# Altium schematic symbol library NXP LPC2000.SchLib: 82 symbols (part 1 of 6)
Pins are listed as number, name and electrical type; pins without a type are passive.

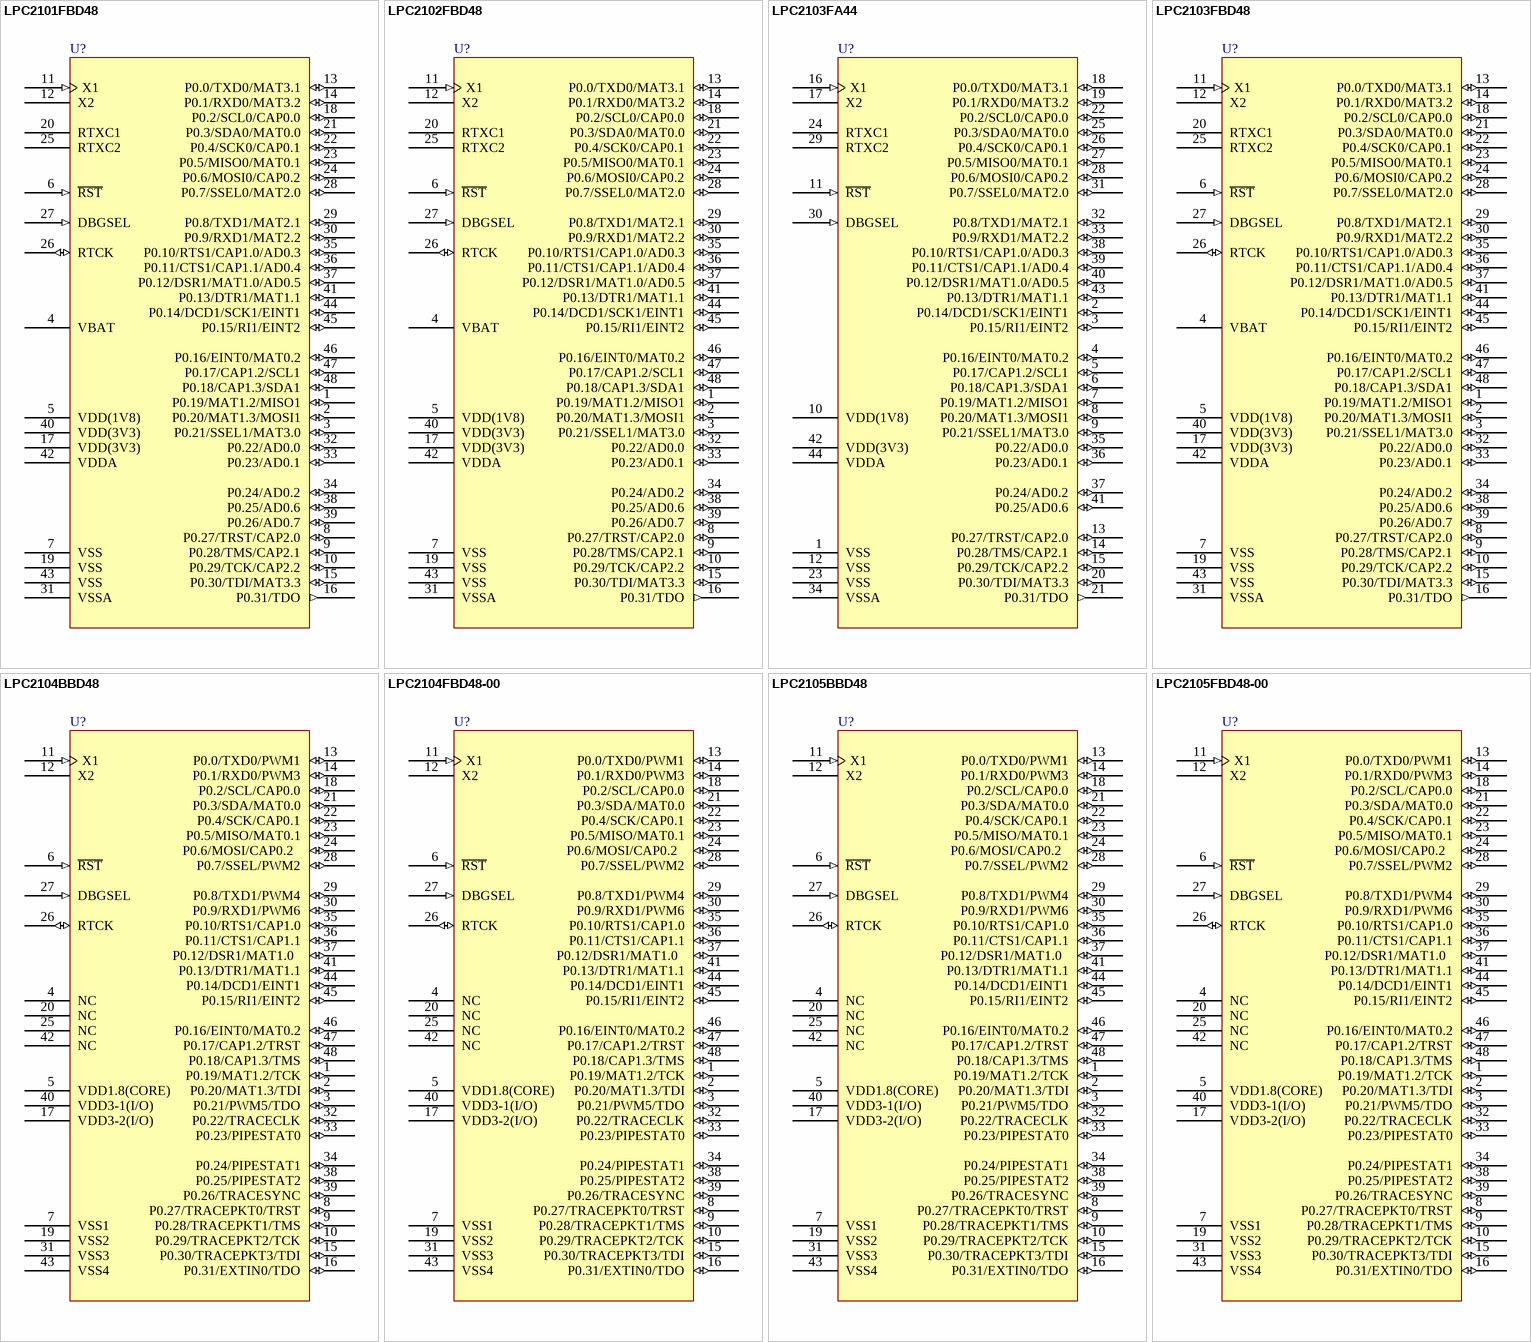
[diagram p0: symbols LPC2101FBD48 to LPC2105FBD48-00]

## LPC2101FBD48
designator U?
ARM7 16/32-Bit Microcontroller, 8KB Flash, 2KB RAM, 48-Lead LQFP; Code_IEC: 136E05; Published: 31-Jul-2006; DatasheetVersion: rev.01, Jan-2006; PackageVersion: Feb-2003; PackageReference: SOT313-2; Publisher: Altium Limited; PackageDescription: 48-Pin Plastic Low Profile Quad Flat Pack; Code_JEDEC: MS-026; ComponentLink1Description: Manufacturer Link; ComponentLink1URL: http://www.nxp.com/; ComponentLink2Description: Datasheet; ComponentLink2URL: http://www.standardics.nxp.com/products/lpc2000/datasheet/lpc2101.lpc2102.lpc2103.pdf
footprint SOT313-2_N (Thin QFP, 48-Leads, Body 7x7mm, Pitch 0.5mm, IPC Medium Density)
footprint SOT313-2_L (Thin QFP, 48-Leads, Body 7x7mm, Pitch 0.5mm, IPC High Density)
footprint SOT313-2_M (Thin QFP, 48-Leads, Body 7x7mm, Pitch 0.5mm, IPC Low Density)
3D model LPC2101-QFP48 (48-Pin Plastic Low Profile Quad Flat Pack)
pins: 1 P0.19/MAT1.2/MISO1 (io), 2 P0.20/MAT1.3/MOSI1 (io), 3 P0.21/SSEL1/MAT3.0 (io), 4 VBAT (power), 5 VDD(1V8) (power), 6 ~{RST} (in), 7 VSS (power), 8 P0.27/TRST/CAP2.0 (io), 9 P0.28/TMS/CAP2.1 (io), 10 P0.29/TCK/CAP2.2 (io), 11 X1 (in), 12 X2, 13 P0.0/TXD0/MAT3.1 (io), 14 P0.1/RXD0/MAT3.2 (io), 15 P0.30/TDI/MAT3.3 (io), 16 P0.31/TDO (out), 17 VDD(3V3) (power), 18 P0.2/SCL0/CAP0.0 (io), 19 VSS (power), 20 RTXC1, 21 P0.3/SDA0/MAT0.0 (io), 22 P0.4/SCK0/CAP0.1 (io), 23 P0.5/MISO0/MAT0.1 (io), 24 P0.6/MOSI0/CAP0.2 (io), 25 RTXC2, 26 RTCK (io), 27 DBGSEL (in), 28 P0.7/SSEL0/MAT2.0 (io), 29 P0.8/TXD1/MAT2.1 (io), 30 P0.9/RXD1/MAT2.2 (io), 31 VSSA (power), 32 P0.22/AD0.0 (io), 33 P0.23/AD0.1 (io), 34 P0.24/AD0.2 (io), 35 P0.10/RTS1/CAP1.0/AD0.3 (io), 36 P0.11/CTS1/CAP1.1/AD0.4 (io), 37 P0.12/DSR1/MAT1.0/AD0.5 (io), 38 P0.25/AD0.6 (io), 39 P0.26/AD0.7 (io), 40 VDD(3V3) (power), 41 P0.13/DTR1/MAT1.1 (io), 42 VDDA (power), 43 VSS (power), 44 P0.14/DCD1/SCK1/EINT1 (io), 45 P0.15/RI1/EINT2 (io), 46 P0.16/EINT0/MAT0.2 (io), 47 P0.17/CAP1.2/SCL1 (io), 48 P0.18/CAP1.3/SDA1 (io)

## LPC2102FBD48
designator U?
ARM7 16/32-Bit Microcontroller, 16KB Flash, 4KB RAM, 48-Lead LQFP; Code_IEC: 136E05; Published: 31-Jul-2006; DatasheetVersion: rev.01, Jan-2006; PackageVersion: Feb-2003; PackageReference: SOT313-2; Publisher: Altium Limited; PackageDescription: 48-Pin Plastic Low Profile Quad Flat Pack; Code_JEDEC: MS-026; ComponentLink1Description: Manufacturer Link; ComponentLink1URL: http://www.nxp.com/; ComponentLink2Description: Datasheet; ComponentLink2URL: http://www.standardics.nxp.com/products/lpc2000/datasheet/lpc2101.lpc2102.lpc2103.pdf
footprint SOT313-2_N (Thin QFP, 48-Leads, Body 7x7mm, Pitch 0.5mm, IPC Medium Density)
footprint SOT313-2_L (Thin QFP, 48-Leads, Body 7x7mm, Pitch 0.5mm, IPC High Density)
footprint SOT313-2_M (Thin QFP, 48-Leads, Body 7x7mm, Pitch 0.5mm, IPC Low Density)
3D model LPC2102-QFP48 (48-Pin Plastic Low Profile Quad Flat Pack)
pins: 1 P0.19/MAT1.2/MISO1 (io), 2 P0.20/MAT1.3/MOSI1 (io), 3 P0.21/SSEL1/MAT3.0 (io), 4 VBAT (power), 5 VDD(1V8) (power), 6 ~{RST} (in), 7 VSS (power), 8 P0.27/TRST/CAP2.0 (io), 9 P0.28/TMS/CAP2.1 (io), 10 P0.29/TCK/CAP2.2 (io), 11 X1 (in), 12 X2, 13 P0.0/TXD0/MAT3.1 (io), 14 P0.1/RXD0/MAT3.2 (io), 15 P0.30/TDI/MAT3.3 (io), 16 P0.31/TDO (out), 17 VDD(3V3) (power), 18 P0.2/SCL0/CAP0.0 (io), 19 VSS (power), 20 RTXC1, 21 P0.3/SDA0/MAT0.0 (io), 22 P0.4/SCK0/CAP0.1 (io), 23 P0.5/MISO0/MAT0.1 (io), 24 P0.6/MOSI0/CAP0.2 (io), 25 RTXC2, 26 RTCK (io), 27 DBGSEL (in), 28 P0.7/SSEL0/MAT2.0 (io), 29 P0.8/TXD1/MAT2.1 (io), 30 P0.9/RXD1/MAT2.2 (io), 31 VSSA (power), 32 P0.22/AD0.0 (io), 33 P0.23/AD0.1 (io), 34 P0.24/AD0.2 (io), 35 P0.10/RTS1/CAP1.0/AD0.3 (io), 36 P0.11/CTS1/CAP1.1/AD0.4 (io), 37 P0.12/DSR1/MAT1.0/AD0.5 (io), 38 P0.25/AD0.6 (io), 39 P0.26/AD0.7 (io), 40 VDD(3V3) (power), 41 P0.13/DTR1/MAT1.1 (io), 42 VDDA (power), 43 VSS (power), 44 P0.14/DCD1/SCK1/EINT1 (io), 45 P0.15/RI1/EINT2 (io), 46 P0.16/EINT0/MAT0.2 (io), 47 P0.17/CAP1.2/SCL1 (io), 48 P0.18/CAP1.3/SDA1 (io)

## LPC2103FA44
designator U?
ARM7 16/32-Bit Microcontroller, 32KB Flash, 8KB RAM, 44-Lead PLCC; Code_IEC: 112E10; Published: 31-Jul-2006; DatasheetVersion: rev.01, Jan-2006; PackageVersion: Nov-2001; PackageReference: SOT187-2; Publisher: Altium Limited; PackageDescription: 44-Pin Leaded Chip Carrier 1.27 mm Pitch; Code_JEDEC: MS-018; Code_IPC: PLCC-44; ComponentLink1Description: Manufacturer Link; ComponentLink1URL: http://www.nxp.com/; ComponentLink2Description: Datasheet; ComponentLink2URL: http://www.standardics.nxp.com/products/lpc2000/datasheet/lpc2101.lpc2102.lpc2103.pdf
footprint SOT187-2_N (Leaded Chip Carrier, 44-Leads, Body 16.6x16.6mm, Pitch 1.27mm, IPC Medium Density)
footprint SOT187-2_L (Leaded Chip Carrier, 44-Leads, Body 16.6x16.6mm, Pitch 1.27mm, IPC High Density)
footprint SOT187-2_M (Leaded Chip Carrier, 44-Leads, Body 16.6x16.6mm, Pitch 1.27mm, IPC Low Density)
3D model LPC2103-PLCC44 (44-Pin Leaded Chip Carrier 1.27 mm Pitch)
pins: 1 VSS (power), 2 P0.14/DCD1/SCK1/EINT1 (io), 3 P0.15/RI1/EINT2 (io), 4 P0.16/EINT0/MAT0.2 (io), 5 P0.17/CAP1.2/SCL1 (io), 6 P0.18/CAP1.3/SDA1 (io), 7 P0.19/MAT1.2/MISO1 (io), 8 P0.20/MAT1.3/MOSI1 (io), 9 P0.21/SSEL1/MAT3.0 (io), 10 VDD(1V8) (power), 11 ~{RST} (in), 12 VSS (power), 13 P0.27/TRST/CAP2.0 (io), 14 P0.28/TMS/CAP2.1 (io), 15 P0.29/TCK/CAP2.2 (io), 16 X1 (in), 17 X2, 18 P0.0/TXD0/MAT3.1 (io), 19 P0.1/RXD0/MAT3.2 (io), 20 P0.30/TDI/MAT3.3 (io), 21 P0.31/TDO (out), 22 P0.2/SCL0/CAP0.0 (io), 23 VSS (power), 24 RTXC1, 25 P0.3/SDA0/MAT0.0 (io), 26 P0.4/SCK0/CAP0.1 (io), 27 P0.5/MISO0/MAT0.1 (io), 28 P0.6/MOSI0/CAP0.2 (io), 29 RTXC2, 30 DBGSEL (in), 31 P0.7/SSEL0/MAT2.0 (io), 32 P0.8/TXD1/MAT2.1 (io), 33 P0.9/RXD1/MAT2.2 (io), 34 VSSA (power), 35 P0.22/AD0.0 (io), 36 P0.23/AD0.1 (io), 37 P0.24/AD0.2 (io), 38 P0.10/RTS1/CAP1.0/AD0.3 (io), 39 P0.11/CTS1/CAP1.1/AD0.4 (io), 40 P0.12/DSR1/MAT1.0/AD0.5 (io), 41 P0.25/AD0.6 (io), 42 VDD(3V3) (power), 43 P0.13/DTR1/MAT1.1 (io), 44 VDDA (power)

## LPC2103FBD48
designator U?
ARM7 16/32-Bit Microcontroller, 32KB Flash, 8KB RAM, 48-Lead LQFP; Code_IEC: 136E05; Published: 31-Jul-2006; DatasheetVersion: rev.01, Jan-2006; PackageVersion: Feb-2003; PackageReference: SOT313-2; Publisher: Altium Limited; PackageDescription: 48-Pin Plastic Low Profile Quad Flat Pack; Code_JEDEC: MS-026; ComponentLink1Description: Manufacturer Link; ComponentLink1URL: http://www.nxp.com/; ComponentLink2Description: Datasheet; ComponentLink2URL: http://www.standardics.nxp.com/products/lpc2000/datasheet/lpc2101.lpc2102.lpc2103.pdf
footprint SOT313-2_N (Thin QFP, 48-Leads, Body 7x7mm, Pitch 0.5mm, IPC Medium Density)
footprint SOT313-2_L (Thin QFP, 48-Leads, Body 7x7mm, Pitch 0.5mm, IPC High Density)
footprint SOT313-2_M (Thin QFP, 48-Leads, Body 7x7mm, Pitch 0.5mm, IPC Low Density)
3D model LPC2103-QFP48 (48-Pin Plastic Low Profile Quad Flat Pack)
pins: 1 P0.19/MAT1.2/MISO1 (io), 2 P0.20/MAT1.3/MOSI1 (io), 3 P0.21/SSEL1/MAT3.0 (io), 4 VBAT (power), 5 VDD(1V8) (power), 6 ~{RST} (in), 7 VSS (power), 8 P0.27/TRST/CAP2.0 (io), 9 P0.28/TMS/CAP2.1 (io), 10 P0.29/TCK/CAP2.2 (io), 11 X1 (in), 12 X2, 13 P0.0/TXD0/MAT3.1 (io), 14 P0.1/RXD0/MAT3.2 (io), 15 P0.30/TDI/MAT3.3 (io), 16 P0.31/TDO (out), 17 VDD(3V3) (power), 18 P0.2/SCL0/CAP0.0 (io), 19 VSS (power), 20 RTXC1, 21 P0.3/SDA0/MAT0.0 (io), 22 P0.4/SCK0/CAP0.1 (io), 23 P0.5/MISO0/MAT0.1 (io), 24 P0.6/MOSI0/CAP0.2 (io), 25 RTXC2, 26 RTCK (io), 27 DBGSEL (in), 28 P0.7/SSEL0/MAT2.0 (io), 29 P0.8/TXD1/MAT2.1 (io), 30 P0.9/RXD1/MAT2.2 (io), 31 VSSA (power), 32 P0.22/AD0.0 (io), 33 P0.23/AD0.1 (io), 34 P0.24/AD0.2 (io), 35 P0.10/RTS1/CAP1.0/AD0.3 (io), 36 P0.11/CTS1/CAP1.1/AD0.4 (io), 37 P0.12/DSR1/MAT1.0/AD0.5 (io), 38 P0.25/AD0.6 (io), 39 P0.26/AD0.7 (io), 40 VDD(3V3) (power), 41 P0.13/DTR1/MAT1.1 (io), 42 VDDA (power), 43 VSS (power), 44 P0.14/DCD1/SCK1/EINT1 (io), 45 P0.15/RI1/EINT2 (io), 46 P0.16/EINT0/MAT0.2 (io), 47 P0.17/CAP1.2/SCL1 (io), 48 P0.18/CAP1.3/SDA1 (io)

## LPC2104BBD48
designator U?
ARM7 16/32-Bit Microcontroller, 128KB Flash, 16KB RAM, 48-Lead LQFP; Code_IEC: 136E05; Published: 31-Jul-2006; DatasheetVersion: rev.06, Jul-2006; PackageVersion: Feb-2003; PackageReference: SOT313-2; Publisher: Altium Limited; PackageDescription: 48-Pin Plastic Low Profile Quad Flat Pack; Code_JEDEC: MS-026; ComponentLink1Description: Manufacturer Link; ComponentLink1URL: http://www.nxp.com/; ComponentLink2Description: Datasheet; ComponentLink2URL: http://www.standardics.nxp.com/products/lpc2000/datasheet/lpc2104.lpc2105.lpc2106.pdf
footprint SOT313-2_N (Thin QFP, 48-Leads, Body 7x7mm, Pitch 0.5mm, IPC Medium Density)
footprint SOT313-2_L (Thin QFP, 48-Leads, Body 7x7mm, Pitch 0.5mm, IPC High Density)
footprint SOT313-2_M (Thin QFP, 48-Leads, Body 7x7mm, Pitch 0.5mm, IPC Low Density)
3D model LPC2104-QFP48 (48-Pin Plastic Low Profile Quad Flat Pack)
pins: 1 P0.19/MAT1.2/TCK (io), 2 P0.20/MAT1.3/TDI (io), 3 P0.21/PWM5/TDO (io), 4 NC, 5 VDD1.8(CORE) (power), 6 ~{RST} (in), 7 VSS1 (power), 8 P0.27/TRACEPKT0/TRST (io), 9 P0.28/TRACEPKT1/TMS (io), 10 P0.29/TRACEPKT2/TCK (io), 11 X1 (in), 12 X2, 13 P0.0/TXD0/PWM1 (io), 14 P0.1/RXD0/PWM3 (io), 15 P0.30/TRACEPKT3/TDI (io), 16 P0.31/EXTIN0/TDO (io), 17 VDD3-2(I/O) (power), 18 P0.2/SCL/CAP0.0 (io), 19 VSS2 (power), 20 NC, 21 P0.3/SDA/MAT0.0 (io), 22 P0.4/SCK/CAP0.1 (io), 23 P0.5/MISO/MAT0.1 (io), 24 P0.6/MOSI/CAP0.2   (io), 25 NC, 26 RTCK (io), 27 DBGSEL (in), 28 P0.7/SSEL/PWM2 (io), 29 P0.8/TXD1/PWM4 (io), 30 P0.9/RXD1/PWM6 (io), 31 VSS3 (power), 32 P0.22/TRACECLK (io), 33 P0.23/PIPESTAT0 (io), 34 P0.24/PIPESTAT1 (io), 35 P0.10/RTS1/CAP1.0 (io), 36 P0.11/CTS1/CAP1.1 (io), 37 P0.12/DSR1/MAT1.0   (io), 38 P0.25/PIPESTAT2 (io), 39 P0.26/TRACESYNC (io), 40 VDD3-1(I/O) (power), 41 P0.13/DTR1/MAT1.1 (io), 42 NC, 43 VSS4 (power), 44 P0.14/DCD1/EINT1 (io), 45 P0.15/RI1/EINT2 (io), 46 P0.16/EINT0/MAT0.2 (io), 47 P0.17/CAP1.2/TRST (io), 48 P0.18/CAP1.3/TMS (io)

## LPC2104FBD48-00
designator U?
ARM7 16/32-Bit Microcontroller, 128KB Flash, 16KB RAM, 48-Lead LQFP; Code_IEC: 136E05; Published: 17-Aug-2007; DatasheetVersion: rev.06, Jul-2006; PackageVersion: Feb-2003; PackageReference: SOT313-2; Publisher: Altium Limited; PackageDescription: 48-Pin Plastic Low Profile Quad Flat Pack; Code_JEDEC: MS-026; ComponentLink1Description: Manufacturer Link; ComponentLink1URL: http://www.nxp.com/; ComponentLink2Description: Datasheet; ComponentLink2URL: http://www.standardics.nxp.com/products/lpc2000/datasheet/lpc2104.lpc2105.lpc2106.pdf
footprint SOT313-2_N (Thin QFP, 48-Leads, Body 7x7mm, Pitch 0.5mm, IPC Medium Density)
footprint SOT313-2_L (Thin QFP, 48-Leads, Body 7x7mm, Pitch 0.5mm, IPC High Density)
footprint SOT313-2_M (Thin QFP, 48-Leads, Body 7x7mm, Pitch 0.5mm, IPC Low Density)
3D model LPC2104-QFP48 (48-Pin Plastic Low Profile Quad Flat Pack)
pins: 1 P0.19/MAT1.2/TCK (io), 2 P0.20/MAT1.3/TDI (io), 3 P0.21/PWM5/TDO (io), 4 NC, 5 VDD1.8(CORE) (power), 6 ~{RST} (in), 7 VSS1 (power), 8 P0.27/TRACEPKT0/TRST (io), 9 P0.28/TRACEPKT1/TMS (io), 10 P0.29/TRACEPKT2/TCK (io), 11 X1 (in), 12 X2, 13 P0.0/TXD0/PWM1 (io), 14 P0.1/RXD0/PWM3 (io), 15 P0.30/TRACEPKT3/TDI (io), 16 P0.31/EXTIN0/TDO (io), 17 VDD3-2(I/O) (power), 18 P0.2/SCL/CAP0.0 (io), 19 VSS2 (power), 20 NC, 21 P0.3/SDA/MAT0.0 (io), 22 P0.4/SCK/CAP0.1 (io), 23 P0.5/MISO/MAT0.1 (io), 24 P0.6/MOSI/CAP0.2   (io), 25 NC, 26 RTCK (io), 27 DBGSEL (in), 28 P0.7/SSEL/PWM2 (io), 29 P0.8/TXD1/PWM4 (io), 30 P0.9/RXD1/PWM6 (io), 31 VSS3 (power), 32 P0.22/TRACECLK (io), 33 P0.23/PIPESTAT0 (io), 34 P0.24/PIPESTAT1 (io), 35 P0.10/RTS1/CAP1.0 (io), 36 P0.11/CTS1/CAP1.1 (io), 37 P0.12/DSR1/MAT1.0   (io), 38 P0.25/PIPESTAT2 (io), 39 P0.26/TRACESYNC (io), 40 VDD3-1(I/O) (power), 41 P0.13/DTR1/MAT1.1 (io), 42 NC, 43 VSS4 (power), 44 P0.14/DCD1/EINT1 (io), 45 P0.15/RI1/EINT2 (io), 46 P0.16/EINT0/MAT0.2 (io), 47 P0.17/CAP1.2/TRST (io), 48 P0.18/CAP1.3/TMS (io)

## LPC2105BBD48
designator U?
ARM7 16/32-Bit Microcontroller, 128KB Flash, 32KB RAM, 48-Lead LQFP; Code_IEC: 136E05; Published: 31-Jul-2006; DatasheetVersion: rev.06, Jul-2006; PackageVersion: Feb-2003; PackageReference: SOT313-2; Publisher: Altium Limited; PackageDescription: 48-Pin Plastic Low Profile Quad Flat Pack; Code_JEDEC: MS-026; ComponentLink1Description: Manufacturer Link; ComponentLink1URL: http://www.nxp.com/; ComponentLink2Description: Datasheet; ComponentLink2URL: http://www.standardics.nxp.com/products/lpc2000/datasheet/lpc2104.lpc2105.lpc2106.pdf
footprint SOT313-2_N (Thin QFP, 48-Leads, Body 7x7mm, Pitch 0.5mm, IPC Medium Density)
footprint SOT313-2_L (Thin QFP, 48-Leads, Body 7x7mm, Pitch 0.5mm, IPC High Density)
footprint SOT313-2_M (Thin QFP, 48-Leads, Body 7x7mm, Pitch 0.5mm, IPC Low Density)
3D model LPC2105-QFP48 (48-Pin Plastic Low Profile Quad Flat Pack)
pins: 1 P0.19/MAT1.2/TCK (io), 2 P0.20/MAT1.3/TDI (io), 3 P0.21/PWM5/TDO (io), 4 NC, 5 VDD1.8(CORE) (power), 6 ~{RST} (in), 7 VSS1 (power), 8 P0.27/TRACEPKT0/TRST (io), 9 P0.28/TRACEPKT1/TMS (io), 10 P0.29/TRACEPKT2/TCK (io), 11 X1 (in), 12 X2, 13 P0.0/TXD0/PWM1 (io), 14 P0.1/RXD0/PWM3 (io), 15 P0.30/TRACEPKT3/TDI (io), 16 P0.31/EXTIN0/TDO (io), 17 VDD3-2(I/O) (power), 18 P0.2/SCL/CAP0.0 (io), 19 VSS2 (power), 20 NC, 21 P0.3/SDA/MAT0.0 (io), 22 P0.4/SCK/CAP0.1 (io), 23 P0.5/MISO/MAT0.1 (io), 24 P0.6/MOSI/CAP0.2   (io), 25 NC, 26 RTCK (io), 27 DBGSEL (in), 28 P0.7/SSEL/PWM2 (io), 29 P0.8/TXD1/PWM4 (io), 30 P0.9/RXD1/PWM6 (io), 31 VSS3 (power), 32 P0.22/TRACECLK (io), 33 P0.23/PIPESTAT0 (io), 34 P0.24/PIPESTAT1 (io), 35 P0.10/RTS1/CAP1.0 (io), 36 P0.11/CTS1/CAP1.1 (io), 37 P0.12/DSR1/MAT1.0   (io), 38 P0.25/PIPESTAT2 (io), 39 P0.26/TRACESYNC (io), 40 VDD3-1(I/O) (power), 41 P0.13/DTR1/MAT1.1 (io), 42 NC, 43 VSS4 (power), 44 P0.14/DCD1/EINT1 (io), 45 P0.15/RI1/EINT2 (io), 46 P0.16/EINT0/MAT0.2 (io), 47 P0.17/CAP1.2/TRST (io), 48 P0.18/CAP1.3/TMS (io)

## LPC2105FBD48-00
designator U?
ARM7 16/32-Bit Microcontroller, 128KB Flash, 32KB RAM, 48-Lead LQFP; Code_IEC: 136E05; Published: 17-Aug-2007; DatasheetVersion: rev.06, Jul-2006; PackageVersion: Feb-2003; PackageReference: SOT313-2; Publisher: Altium Limited; PackageDescription: 48-Pin Plastic Low Profile Quad Flat Pack; Code_JEDEC: MS-026; ComponentLink1Description: Manufacturer Link; ComponentLink1URL: http://www.nxp.com/; ComponentLink2Description: Datasheet; ComponentLink2URL: http://www.standardics.nxp.com/products/lpc2000/datasheet/lpc2104.lpc2105.lpc2106.pdf
footprint SOT313-2_N (Thin QFP, 48-Leads, Body 7x7mm, Pitch 0.5mm, IPC Medium Density)
footprint SOT313-2_L (Thin QFP, 48-Leads, Body 7x7mm, Pitch 0.5mm, IPC High Density)
footprint SOT313-2_M (Thin QFP, 48-Leads, Body 7x7mm, Pitch 0.5mm, IPC Low Density)
3D model LPC2105-QFP48 (48-Pin Plastic Low Profile Quad Flat Pack)
pins: 1 P0.19/MAT1.2/TCK (io), 2 P0.20/MAT1.3/TDI (io), 3 P0.21/PWM5/TDO (io), 4 NC, 5 VDD1.8(CORE) (power), 6 ~{RST} (in), 7 VSS1 (power), 8 P0.27/TRACEPKT0/TRST (io), 9 P0.28/TRACEPKT1/TMS (io), 10 P0.29/TRACEPKT2/TCK (io), 11 X1 (in), 12 X2, 13 P0.0/TXD0/PWM1 (io), 14 P0.1/RXD0/PWM3 (io), 15 P0.30/TRACEPKT3/TDI (io), 16 P0.31/EXTIN0/TDO (io), 17 VDD3-2(I/O) (power), 18 P0.2/SCL/CAP0.0 (io), 19 VSS2 (power), 20 NC, 21 P0.3/SDA/MAT0.0 (io), 22 P0.4/SCK/CAP0.1 (io), 23 P0.5/MISO/MAT0.1 (io), 24 P0.6/MOSI/CAP0.2   (io), 25 NC, 26 RTCK (io), 27 DBGSEL (in), 28 P0.7/SSEL/PWM2 (io), 29 P0.8/TXD1/PWM4 (io), 30 P0.9/RXD1/PWM6 (io), 31 VSS3 (power), 32 P0.22/TRACECLK (io), 33 P0.23/PIPESTAT0 (io), 34 P0.24/PIPESTAT1 (io), 35 P0.10/RTS1/CAP1.0 (io), 36 P0.11/CTS1/CAP1.1 (io), 37 P0.12/DSR1/MAT1.0   (io), 38 P0.25/PIPESTAT2 (io), 39 P0.26/TRACESYNC (io), 40 VDD3-1(I/O) (power), 41 P0.13/DTR1/MAT1.1 (io), 42 NC, 43 VSS4 (power), 44 P0.14/DCD1/EINT1 (io), 45 P0.15/RI1/EINT2 (io), 46 P0.16/EINT0/MAT0.2 (io), 47 P0.17/CAP1.2/TRST (io), 48 P0.18/CAP1.3/TMS (io)

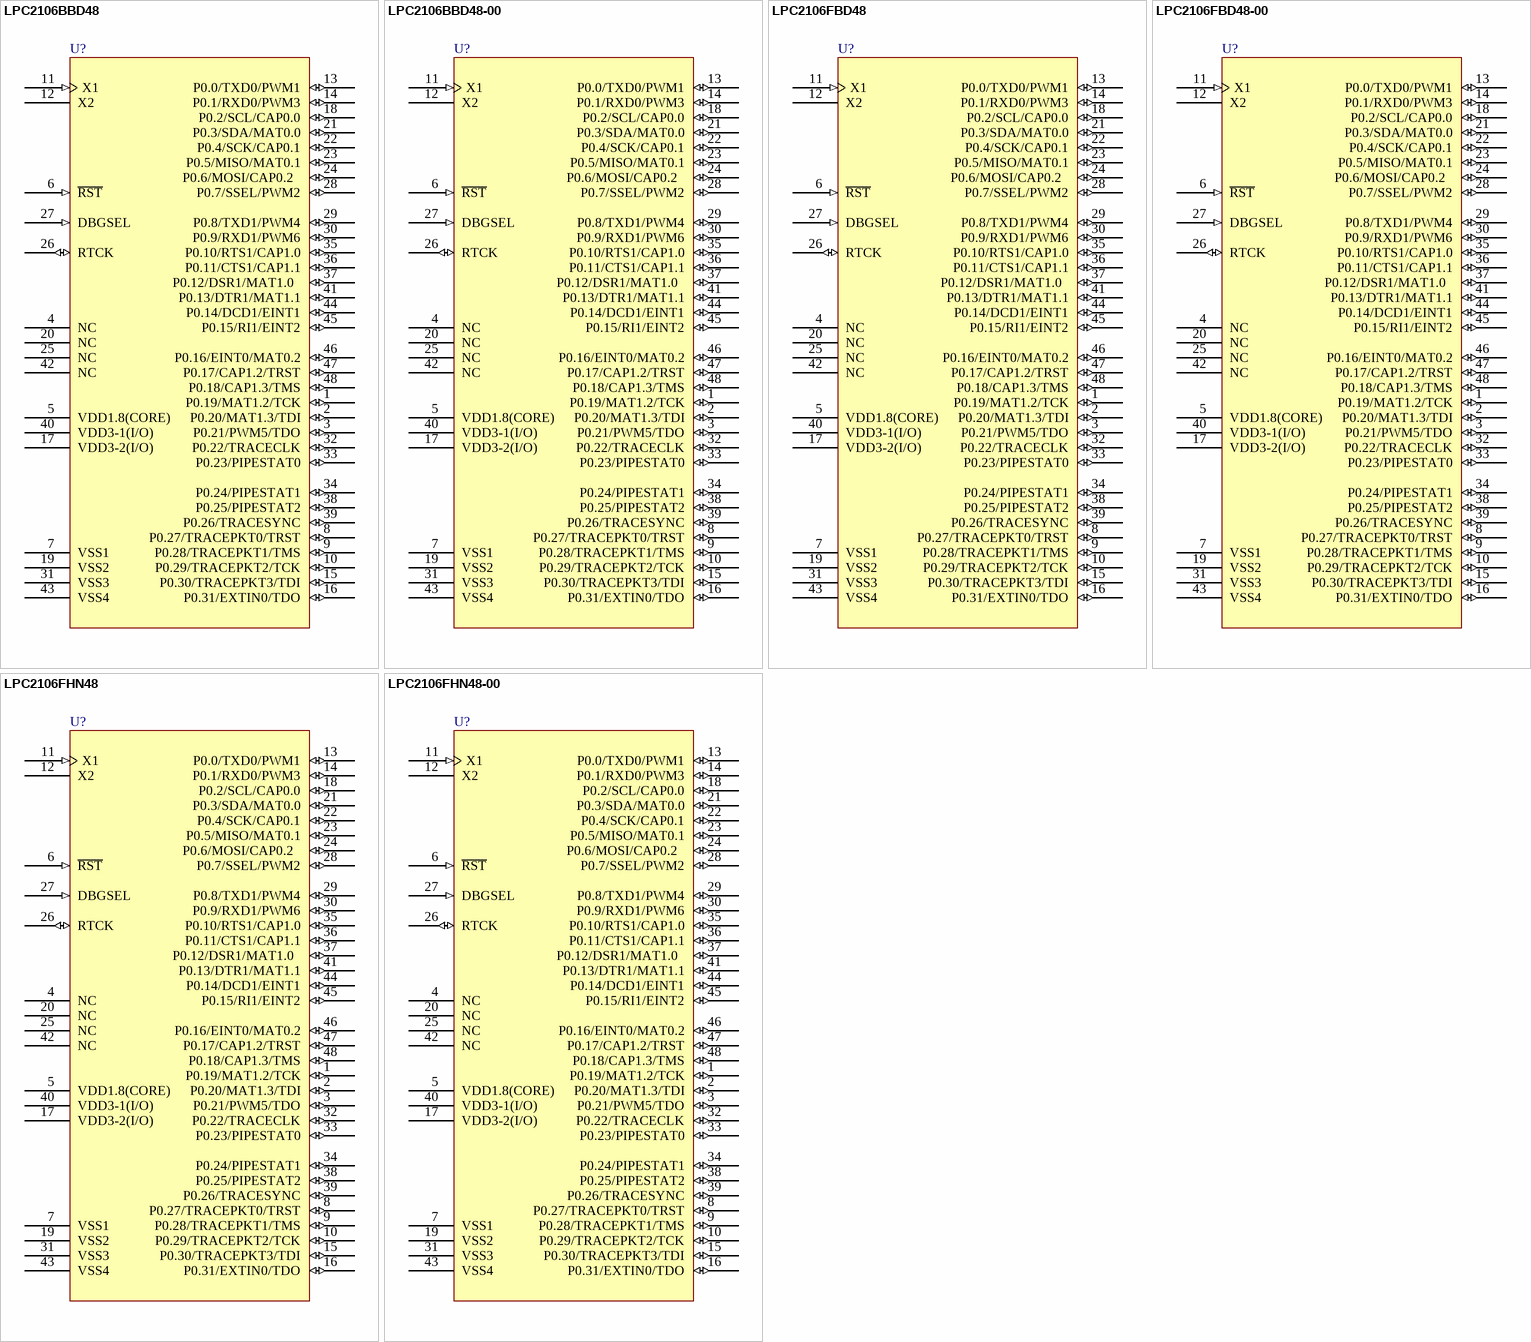
[diagram p1: symbols LPC2106BBD48 to LPC2106FHN48-00]

## LPC2106BBD48
designator U?
ARM7 16/32-Bit Microcontroller, 128KB Flash, 64KB RAM, 48-Lead LQFP; Code_IEC: 136E05; Published: 17-Aug-2007; DatasheetVersion: rev.06, Jul-2006; PackageVersion: Feb-2003; PackageReference: SOT313-2; Publisher: Altium Limited; PackageDescription: 48-Pin Plastic Low Profile Quad Flat Pack; Code_JEDEC: MS-026; ComponentLink1Description: Manufacturer Link; ComponentLink1URL: http://www.nxp.com/; ComponentLink2Description: Datasheet; ComponentLink2URL: http://www.standardics.nxp.com/products/lpc2000/datasheet/lpc2104.lpc2105.lpc2106.pdf
footprint SOT313-2_N (Thin QFP, 48-Leads, Body 7x7mm, Pitch 0.5mm, IPC Medium Density)
footprint SOT313-2_L (Thin QFP, 48-Leads, Body 7x7mm, Pitch 0.5mm, IPC High Density)
footprint SOT313-2_M (Thin QFP, 48-Leads, Body 7x7mm, Pitch 0.5mm, IPC Low Density)
3D model LPC2106-QFP48 (48-Pin Plastic Low Profile Quad Flat Pack)
pins: 1 P0.19/MAT1.2/TCK (io), 2 P0.20/MAT1.3/TDI (io), 3 P0.21/PWM5/TDO (io), 4 NC, 5 VDD1.8(CORE) (power), 6 ~{RST} (in), 7 VSS1 (power), 8 P0.27/TRACEPKT0/TRST (io), 9 P0.28/TRACEPKT1/TMS (io), 10 P0.29/TRACEPKT2/TCK (io), 11 X1 (in), 12 X2, 13 P0.0/TXD0/PWM1 (io), 14 P0.1/RXD0/PWM3 (io), 15 P0.30/TRACEPKT3/TDI (io), 16 P0.31/EXTIN0/TDO (io), 17 VDD3-2(I/O) (power), 18 P0.2/SCL/CAP0.0 (io), 19 VSS2 (power), 20 NC, 21 P0.3/SDA/MAT0.0 (io), 22 P0.4/SCK/CAP0.1 (io), 23 P0.5/MISO/MAT0.1 (io), 24 P0.6/MOSI/CAP0.2   (io), 25 NC, 26 RTCK (io), 27 DBGSEL (in), 28 P0.7/SSEL/PWM2 (io), 29 P0.8/TXD1/PWM4 (io), 30 P0.9/RXD1/PWM6 (io), 31 VSS3 (power), 32 P0.22/TRACECLK (io), 33 P0.23/PIPESTAT0 (io), 34 P0.24/PIPESTAT1 (io), 35 P0.10/RTS1/CAP1.0 (io), 36 P0.11/CTS1/CAP1.1 (io), 37 P0.12/DSR1/MAT1.0   (io), 38 P0.25/PIPESTAT2 (io), 39 P0.26/TRACESYNC (io), 40 VDD3-1(I/O) (power), 41 P0.13/DTR1/MAT1.1 (io), 42 NC, 43 VSS4 (power), 44 P0.14/DCD1/EINT1 (io), 45 P0.15/RI1/EINT2 (io), 46 P0.16/EINT0/MAT0.2 (io), 47 P0.17/CAP1.2/TRST (io), 48 P0.18/CAP1.3/TMS (io)

## LPC2106BBD48-00
designator U?
ARM7 16/32-Bit Microcontroller, 128KB Flash, 64KB RAM, 48-Lead LQFP; Code_IEC: 136E05; Published: 17-Aug-2007; DatasheetVersion: rev.06, Jul-2006; PackageVersion: Feb-2003; PackageReference: SOT313-2; Publisher: Altium Limited; PackageDescription: 48-Pin Plastic Low Profile Quad Flat Pack; Code_JEDEC: MS-026; ComponentLink1Description: Manufacturer Link; ComponentLink1URL: http://www.nxp.com/; ComponentLink2Description: Datasheet; ComponentLink2URL: http://www.standardics.nxp.com/products/lpc2000/datasheet/lpc2104.lpc2105.lpc2106.pdf
footprint SOT313-2_N (Thin QFP, 48-Leads, Body 7x7mm, Pitch 0.5mm, IPC Medium Density)
footprint SOT313-2_L (Thin QFP, 48-Leads, Body 7x7mm, Pitch 0.5mm, IPC High Density)
footprint SOT313-2_M (Thin QFP, 48-Leads, Body 7x7mm, Pitch 0.5mm, IPC Low Density)
3D model LPC2106-QFP48 (48-Pin Plastic Low Profile Quad Flat Pack)
pins: 1 P0.19/MAT1.2/TCK (io), 2 P0.20/MAT1.3/TDI (io), 3 P0.21/PWM5/TDO (io), 4 NC, 5 VDD1.8(CORE) (power), 6 ~{RST} (in), 7 VSS1 (power), 8 P0.27/TRACEPKT0/TRST (io), 9 P0.28/TRACEPKT1/TMS (io), 10 P0.29/TRACEPKT2/TCK (io), 11 X1 (in), 12 X2, 13 P0.0/TXD0/PWM1 (io), 14 P0.1/RXD0/PWM3 (io), 15 P0.30/TRACEPKT3/TDI (io), 16 P0.31/EXTIN0/TDO (io), 17 VDD3-2(I/O) (power), 18 P0.2/SCL/CAP0.0 (io), 19 VSS2 (power), 20 NC, 21 P0.3/SDA/MAT0.0 (io), 22 P0.4/SCK/CAP0.1 (io), 23 P0.5/MISO/MAT0.1 (io), 24 P0.6/MOSI/CAP0.2   (io), 25 NC, 26 RTCK (io), 27 DBGSEL (in), 28 P0.7/SSEL/PWM2 (io), 29 P0.8/TXD1/PWM4 (io), 30 P0.9/RXD1/PWM6 (io), 31 VSS3 (power), 32 P0.22/TRACECLK (io), 33 P0.23/PIPESTAT0 (io), 34 P0.24/PIPESTAT1 (io), 35 P0.10/RTS1/CAP1.0 (io), 36 P0.11/CTS1/CAP1.1 (io), 37 P0.12/DSR1/MAT1.0   (io), 38 P0.25/PIPESTAT2 (io), 39 P0.26/TRACESYNC (io), 40 VDD3-1(I/O) (power), 41 P0.13/DTR1/MAT1.1 (io), 42 NC, 43 VSS4 (power), 44 P0.14/DCD1/EINT1 (io), 45 P0.15/RI1/EINT2 (io), 46 P0.16/EINT0/MAT0.2 (io), 47 P0.17/CAP1.2/TRST (io), 48 P0.18/CAP1.3/TMS (io)

## LPC2106FBD48
designator U?
ARM7 16/32-Bit Microcontroller, 128KB Flash, 64KB RAM, 48-Lead LQFP; Code_IEC: 136E05; Published: 31-Jul-2006; DatasheetVersion: rev.06, Jul-2006; PackageVersion: Feb-2003; PackageReference: SOT313-2; Publisher: Altium Limited; PackageDescription: 48-Pin Plastic Low Profile Quad Flat Pack; Code_JEDEC: MS-026; ComponentLink1Description: Manufacturer Link; ComponentLink1URL: http://www.nxp.com/; ComponentLink2Description: Datasheet; ComponentLink2URL: http://www.standardics.nxp.com/products/lpc2000/datasheet/lpc2104.lpc2105.lpc2106.pdf
footprint SOT313-2_N (Thin QFP, 48-Leads, Body 7x7mm, Pitch 0.5mm, IPC Medium Density)
footprint SOT313-2_L (Thin QFP, 48-Leads, Body 7x7mm, Pitch 0.5mm, IPC High Density)
footprint SOT313-2_M (Thin QFP, 48-Leads, Body 7x7mm, Pitch 0.5mm, IPC Low Density)
3D model LPC2106-QFP48 (48-Pin Plastic Low Profile Quad Flat Pack)
pins: 1 P0.19/MAT1.2/TCK (io), 2 P0.20/MAT1.3/TDI (io), 3 P0.21/PWM5/TDO (io), 4 NC, 5 VDD1.8(CORE) (power), 6 ~{RST} (in), 7 VSS1 (power), 8 P0.27/TRACEPKT0/TRST (io), 9 P0.28/TRACEPKT1/TMS (io), 10 P0.29/TRACEPKT2/TCK (io), 11 X1 (in), 12 X2, 13 P0.0/TXD0/PWM1 (io), 14 P0.1/RXD0/PWM3 (io), 15 P0.30/TRACEPKT3/TDI (io), 16 P0.31/EXTIN0/TDO (io), 17 VDD3-2(I/O) (power), 18 P0.2/SCL/CAP0.0 (io), 19 VSS2 (power), 20 NC, 21 P0.3/SDA/MAT0.0 (io), 22 P0.4/SCK/CAP0.1 (io), 23 P0.5/MISO/MAT0.1 (io), 24 P0.6/MOSI/CAP0.2   (io), 25 NC, 26 RTCK (io), 27 DBGSEL (in), 28 P0.7/SSEL/PWM2 (io), 29 P0.8/TXD1/PWM4 (io), 30 P0.9/RXD1/PWM6 (io), 31 VSS3 (power), 32 P0.22/TRACECLK (io), 33 P0.23/PIPESTAT0 (io), 34 P0.24/PIPESTAT1 (io), 35 P0.10/RTS1/CAP1.0 (io), 36 P0.11/CTS1/CAP1.1 (io), 37 P0.12/DSR1/MAT1.0   (io), 38 P0.25/PIPESTAT2 (io), 39 P0.26/TRACESYNC (io), 40 VDD3-1(I/O) (power), 41 P0.13/DTR1/MAT1.1 (io), 42 NC, 43 VSS4 (power), 44 P0.14/DCD1/EINT1 (io), 45 P0.15/RI1/EINT2 (io), 46 P0.16/EINT0/MAT0.2 (io), 47 P0.17/CAP1.2/TRST (io), 48 P0.18/CAP1.3/TMS (io)

## LPC2106FBD48-00
designator U?
ARM7 16/32-Bit Microcontroller, 128KB Flash, 64KB RAM, 48-Lead LQFP; Code_IEC: 136E05; Published: 17-Aug-2007; DatasheetVersion: rev.06, Jul-2006; PackageVersion: Feb-2003; PackageReference: SOT313-2; Publisher: Altium Limited; PackageDescription: 48-Pin Plastic Low Profile Quad Flat Pack; Code_JEDEC: MS-026; ComponentLink1Description: Manufacturer Link; ComponentLink1URL: http://www.nxp.com/; ComponentLink2Description: Datasheet; ComponentLink2URL: http://www.standardics.nxp.com/products/lpc2000/datasheet/lpc2104.lpc2105.lpc2106.pdf
footprint SOT313-2_N (Thin QFP, 48-Leads, Body 7x7mm, Pitch 0.5mm, IPC Medium Density)
footprint SOT313-2_L (Thin QFP, 48-Leads, Body 7x7mm, Pitch 0.5mm, IPC High Density)
footprint SOT313-2_M (Thin QFP, 48-Leads, Body 7x7mm, Pitch 0.5mm, IPC Low Density)
3D model LPC2106-QFP48 (48-Pin Plastic Low Profile Quad Flat Pack)
pins: 1 P0.19/MAT1.2/TCK (io), 2 P0.20/MAT1.3/TDI (io), 3 P0.21/PWM5/TDO (io), 4 NC, 5 VDD1.8(CORE) (power), 6 ~{RST} (in), 7 VSS1 (power), 8 P0.27/TRACEPKT0/TRST (io), 9 P0.28/TRACEPKT1/TMS (io), 10 P0.29/TRACEPKT2/TCK (io), 11 X1 (in), 12 X2, 13 P0.0/TXD0/PWM1 (io), 14 P0.1/RXD0/PWM3 (io), 15 P0.30/TRACEPKT3/TDI (io), 16 P0.31/EXTIN0/TDO (io), 17 VDD3-2(I/O) (power), 18 P0.2/SCL/CAP0.0 (io), 19 VSS2 (power), 20 NC, 21 P0.3/SDA/MAT0.0 (io), 22 P0.4/SCK/CAP0.1 (io), 23 P0.5/MISO/MAT0.1 (io), 24 P0.6/MOSI/CAP0.2   (io), 25 NC, 26 RTCK (io), 27 DBGSEL (in), 28 P0.7/SSEL/PWM2 (io), 29 P0.8/TXD1/PWM4 (io), 30 P0.9/RXD1/PWM6 (io), 31 VSS3 (power), 32 P0.22/TRACECLK (io), 33 P0.23/PIPESTAT0 (io), 34 P0.24/PIPESTAT1 (io), 35 P0.10/RTS1/CAP1.0 (io), 36 P0.11/CTS1/CAP1.1 (io), 37 P0.12/DSR1/MAT1.0   (io), 38 P0.25/PIPESTAT2 (io), 39 P0.26/TRACESYNC (io), 40 VDD3-1(I/O) (power), 41 P0.13/DTR1/MAT1.1 (io), 42 NC, 43 VSS4 (power), 44 P0.14/DCD1/EINT1 (io), 45 P0.15/RI1/EINT2 (io), 46 P0.16/EINT0/MAT0.2 (io), 47 P0.17/CAP1.2/TRST (io), 48 P0.18/CAP1.3/TMS (io)

## LPC2106FHN48
designator U?
ARM7 16/32-Bit Microcontroller, 128KB Flash, 64KB RAM, 48-Lead HVQFN; Published: 31-Jul-2006; DatasheetVersion: rev.06, Jul-2006; PackageVersion: Oct-2002; PackageReference: SOT619-1; Publisher: Altium Limited; PackageDescription: 48-Pin Plastic Thermal Enhanced Very Thin Quad Flat Pack No-Lead; Code_JEDEC: MO-220; ComponentLink1Description: Manufacturer Link; ComponentLink1URL: http://www.nxp.com/; ComponentLink2Description: Datasheet; ComponentLink2URL: http://www.standardics.nxp.com/products/lpc2000/datasheet/lpc2104.lpc2105.lpc2106.pdf
footprint SOT619-1_N (QFN, 48-Leads, Body 7x7mm, Pitch 0.5mm, IPC Medium Density)
footprint SOT619-1_L (QFN, 48-Leads, Body 7x7mm, Pitch 0.5mm, IPC High Density)
footprint SOT619-1_M (QFN, 48-Leads, Body 7x7mm, Pitch 0.5mm, IPC Low Density)
3D model LPC2106-FHN48 (48-Pin Plastic Thermal Enhanced Very Thin Quad Flat Pack No-Lead)
pins: 1 P0.19/MAT1.2/TCK (io), 2 P0.20/MAT1.3/TDI (io), 3 P0.21/PWM5/TDO (io), 4 NC, 5 VDD1.8(CORE) (power), 6 ~{RST} (in), 7 VSS1 (power), 8 P0.27/TRACEPKT0/TRST (io), 9 P0.28/TRACEPKT1/TMS (io), 10 P0.29/TRACEPKT2/TCK (io), 11 X1 (in), 12 X2, 13 P0.0/TXD0/PWM1 (io), 14 P0.1/RXD0/PWM3 (io), 15 P0.30/TRACEPKT3/TDI (io), 16 P0.31/EXTIN0/TDO (io), 17 VDD3-2(I/O) (power), 18 P0.2/SCL/CAP0.0 (io), 19 VSS2 (power), 20 NC, 21 P0.3/SDA/MAT0.0 (io), 22 P0.4/SCK/CAP0.1 (io), 23 P0.5/MISO/MAT0.1 (io), 24 P0.6/MOSI/CAP0.2   (io), 25 NC, 26 RTCK (io), 27 DBGSEL (in), 28 P0.7/SSEL/PWM2 (io), 29 P0.8/TXD1/PWM4 (io), 30 P0.9/RXD1/PWM6 (io), 31 VSS3 (power), 32 P0.22/TRACECLK (io), 33 P0.23/PIPESTAT0 (io), 34 P0.24/PIPESTAT1 (io), 35 P0.10/RTS1/CAP1.0 (io), 36 P0.11/CTS1/CAP1.1 (io), 37 P0.12/DSR1/MAT1.0   (io), 38 P0.25/PIPESTAT2 (io), 39 P0.26/TRACESYNC (io), 40 VDD3-1(I/O) (power), 41 P0.13/DTR1/MAT1.1 (io), 42 NC, 43 VSS4 (power), 44 P0.14/DCD1/EINT1 (io), 45 P0.15/RI1/EINT2 (io), 46 P0.16/EINT0/MAT0.2 (io), 47 P0.17/CAP1.2/TRST (io), 48 P0.18/CAP1.3/TMS (io)

## LPC2106FHN48-00
designator U?
ARM7 16/32-Bit Microcontroller, 128KB Flash, 64KB RAM, 48-Lead HVQFN; Published: 17-Aug-2007; DatasheetVersion: rev.06, Jul-2006; PackageVersion: Oct-2002; PackageReference: SOT619-1; Publisher: Altium Limited; PackageDescription: 48-Pin Plastic Thermal Enhanced Very Thin Quad Flat Pack No-Lead; Code_JEDEC: MO-220; ComponentLink1Description: Manufacturer Link; ComponentLink1URL: http://www.nxp.com/; ComponentLink2Description: Datasheet; ComponentLink2URL: http://www.standardics.nxp.com/products/lpc2000/datasheet/lpc2104.lpc2105.lpc2106.pdf
footprint SOT619-1_N (QFN, 48-Leads, Body 7x7mm, Pitch 0.5mm, IPC Medium Density)
footprint SOT619-1_L (QFN, 48-Leads, Body 7x7mm, Pitch 0.5mm, IPC High Density)
footprint SOT619-1_M (QFN, 48-Leads, Body 7x7mm, Pitch 0.5mm, IPC Low Density)
3D model LPC2106-FHN48 (48-Pin Plastic Thermal Enhanced Very Thin Quad Flat Pack No-Lead)
pins: 1 P0.19/MAT1.2/TCK (io), 2 P0.20/MAT1.3/TDI (io), 3 P0.21/PWM5/TDO (io), 4 NC, 5 VDD1.8(CORE) (power), 6 ~{RST} (in), 7 VSS1 (power), 8 P0.27/TRACEPKT0/TRST (io), 9 P0.28/TRACEPKT1/TMS (io), 10 P0.29/TRACEPKT2/TCK (io), 11 X1 (in), 12 X2, 13 P0.0/TXD0/PWM1 (io), 14 P0.1/RXD0/PWM3 (io), 15 P0.30/TRACEPKT3/TDI (io), 16 P0.31/EXTIN0/TDO (io), 17 VDD3-2(I/O) (power), 18 P0.2/SCL/CAP0.0 (io), 19 VSS2 (power), 20 NC, 21 P0.3/SDA/MAT0.0 (io), 22 P0.4/SCK/CAP0.1 (io), 23 P0.5/MISO/MAT0.1 (io), 24 P0.6/MOSI/CAP0.2   (io), 25 NC, 26 RTCK (io), 27 DBGSEL (in), 28 P0.7/SSEL/PWM2 (io), 29 P0.8/TXD1/PWM4 (io), 30 P0.9/RXD1/PWM6 (io), 31 VSS3 (power), 32 P0.22/TRACECLK (io), 33 P0.23/PIPESTAT0 (io), 34 P0.24/PIPESTAT1 (io), 35 P0.10/RTS1/CAP1.0 (io), 36 P0.11/CTS1/CAP1.1 (io), 37 P0.12/DSR1/MAT1.0   (io), 38 P0.25/PIPESTAT2 (io), 39 P0.26/TRACESYNC (io), 40 VDD3-1(I/O) (power), 41 P0.13/DTR1/MAT1.1 (io), 42 NC, 43 VSS4 (power), 44 P0.14/DCD1/EINT1 (io), 45 P0.15/RI1/EINT2 (io), 46 P0.16/EINT0/MAT0.2 (io), 47 P0.17/CAP1.2/TRST (io), 48 P0.18/CAP1.3/TMS (io)

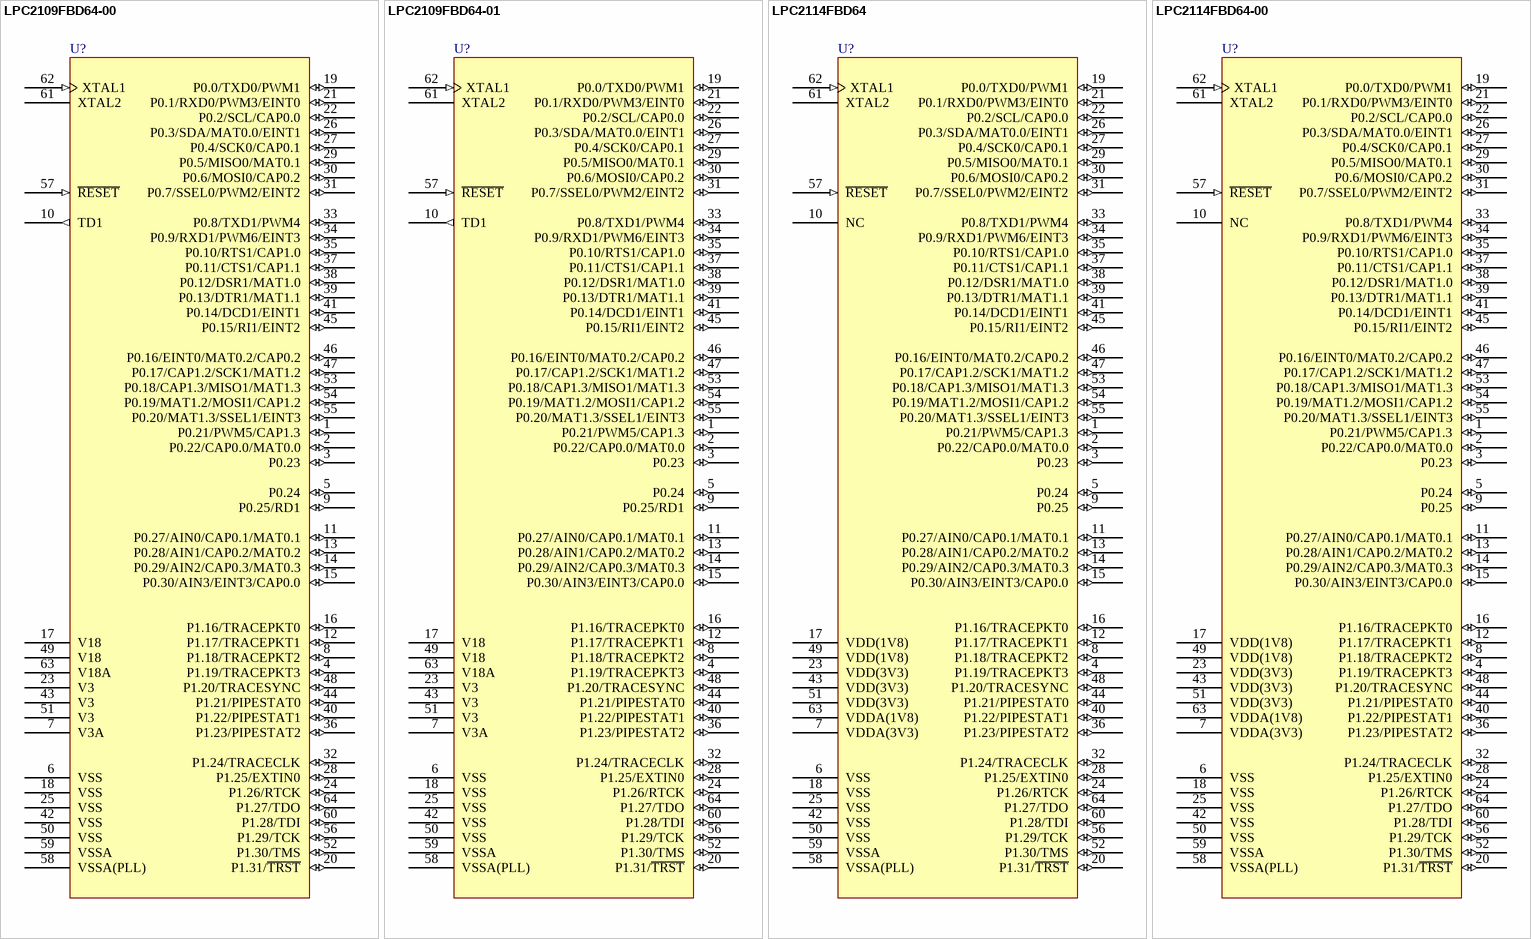
[diagram p2: symbols LPC2109FBD64-00 to LPC2114FBD64-00]

## LPC2109FBD64-00
designator U?
ARM7 16/32-Bit Microcontroller, 64KB Flash, 8KB RAM, 64-Lead LQFP; Code_IEC: 136E10; Published: 17-Aug-2007; DatasheetVersion: rev.06, Jul-2007; PackageVersion: Feb-2003; PackageReference: SOT314-2; Publisher: Altium Limited; PackageDescription: 64-Pin Plastic Low Profile Quad Flat Pack; Code_JEDEC: MS-026; ComponentLink1Description: Manufacturer Link; ComponentLink1URL: http://www.nxp.com/; ComponentLink2Description: Datasheet; ComponentLink2URL: http://www.standardics.nxp.com/products/lpc2000/datasheet/lpc2109.lpc2119.lpc2129.pdf
footprint SOT314-2_N (Thin QFP, 64-Leads, Body 10x10mm, Pitch 0.5mm, IPC Medium Density)
footprint SOT314-2_L (Thin QFP, 64-Leads, Body 10x10mm, Pitch 0.5mm, IPC High Density)
footprint SOT314-2_M (Thin QFP, 64-Leads, Body 10x10mm, Pitch 0.5mm, IPC Low Density)
3D model LPC2109-QFP64 (64-Pin Plastic Low Profile Quad Flat Pack)
pins: 1 P0.21/PWM5/CAP1.3 (io), 2 P0.22/CAP0.0/MAT0.0 (io), 3 P0.23 (io), 4 P1.19/TRACEPKT3 (io), 5 P0.24 (io), 6 VSS (power), 7 V3A (power), 8 P1.18/TRACEPKT2 (io), 9 P0.25/RD1 (io), 10 TD1 (out), 11 P0.27/AIN0/CAP0.1/MAT0.1 (io), 12 P1.17/TRACEPKT1 (io), 13 P0.28/AIN1/CAP0.2/MAT0.2 (io), 14 P0.29/AIN2/CAP0.3/MAT0.3 (io), 15 P0.30/AIN3/EINT3/CAP0.0 (io), 16 P1.16/TRACEPKT0 (io), 17 V18 (power), 18 VSS (power), 19 P0.0/TXD0/PWM1 (io), 20 P1.31/~{TRST} (io), 21 P0.1/RXD0/PWM3/EINT0 (io), 22 P0.2/SCL/CAP0.0 (io), 23 V3 (power), 24 P1.26/RTCK (io), 25 VSS (power), 26 P0.3/SDA/MAT0.0/EINT1 (io), 27 P0.4/SCK0/CAP0.1 (io), 28 P1.25/EXTIN0 (io), 29 P0.5/MISO0/MAT0.1 (io), 30 P0.6/MOSI0/CAP0.2 (io), 31 P0.7/SSEL0/PWM2/EINT2 (io), 32 P1.24/TRACECLK (io), 33 P0.8/TXD1/PWM4 (io), 34 P0.9/RXD1/PWM6/EINT3 (io), 35 P0.10/RTS1/CAP1.0 (io), 36 P1.23/PIPESTAT2 (io), 37 P0.11/CTS1/CAP1.1 (io), 38 P0.12/DSR1/MAT1.0 (io), 39 P0.13/DTR1/MAT1.1 (io), 40 P1.22/PIPESTAT1 (io), 41 P0.14/DCD1/EINT1 (io), 42 VSS (power), 43 V3 (power), 44 P1.21/PIPESTAT0 (io), 45 P0.15/RI1/EINT2 (io), 46 P0.16/EINT0/MAT0.2/CAP0.2 (io), 47 P0.17/CAP1.2/SCK1/MAT1.2 (io), 48 P1.20/TRACESYNC (io), 49 V18 (power), 50 VSS (power), 51 V3 (power), 52 P1.30/TMS (io), 53 P0.18/CAP1.3/MISO1/MAT1.3 (io), 54 P0.19/MAT1.2/MOSI1/CAP1.2 (io), 55 P0.20/MAT1.3/SSEL1/EINT3 (io), 56 P1.29/TCK (io), 57 ~{RESET} (in), 58 VSSA(PLL) (power), 59 VSSA (power), 60 P1.28/TDI (io), 61 XTAL2, 62 XTAL1 (in), 63 V18A (power), 64 P1.27/TDO (io)

## LPC2109FBD64-01
designator U?
ARM7 16/32-Bit Microcontroller, 64KB Flash, 8KB RAM, Fast GPIO/SSP/Enhanced UART, ADC, Timer, 64-Lead LQFP; Code_IEC: 136E10; Published: 17-Aug-2007; DatasheetVersion: rev.06, Jul-2007; PackageVersion: Feb-2003; PackageReference: SOT314-2; Publisher: Altium Limited; PackageDescription: 64-Pin Plastic Low Profile Quad Flat Pack; Code_JEDEC: MS-026; ComponentLink1Description: Manufacturer Link; ComponentLink1URL: http://www.nxp.com/; ComponentLink2Description: Datasheet; ComponentLink2URL: http://www.standardics.nxp.com/products/lpc2000/datasheet/lpc2109.lpc2119.lpc2129.pdf
footprint SOT314-2_N (Thin QFP, 64-Leads, Body 10x10mm, Pitch 0.5mm, IPC Medium Density)
footprint SOT314-2_L (Thin QFP, 64-Leads, Body 10x10mm, Pitch 0.5mm, IPC High Density)
footprint SOT314-2_M (Thin QFP, 64-Leads, Body 10x10mm, Pitch 0.5mm, IPC Low Density)
3D model LPC2109-QFP64 (64-Pin Plastic Low Profile Quad Flat Pack)
pins: 1 P0.21/PWM5/CAP1.3 (io), 2 P0.22/CAP0.0/MAT0.0 (io), 3 P0.23 (io), 4 P1.19/TRACEPKT3 (io), 5 P0.24 (io), 6 VSS (power), 7 V3A (power), 8 P1.18/TRACEPKT2 (io), 9 P0.25/RD1 (io), 10 TD1 (out), 11 P0.27/AIN0/CAP0.1/MAT0.1 (io), 12 P1.17/TRACEPKT1 (io), 13 P0.28/AIN1/CAP0.2/MAT0.2 (io), 14 P0.29/AIN2/CAP0.3/MAT0.3 (io), 15 P0.30/AIN3/EINT3/CAP0.0 (io), 16 P1.16/TRACEPKT0 (io), 17 V18 (power), 18 VSS (power), 19 P0.0/TXD0/PWM1 (io), 20 P1.31/~{TRST} (io), 21 P0.1/RXD0/PWM3/EINT0 (io), 22 P0.2/SCL/CAP0.0 (io), 23 V3 (power), 24 P1.26/RTCK (io), 25 VSS (power), 26 P0.3/SDA/MAT0.0/EINT1 (io), 27 P0.4/SCK0/CAP0.1 (io), 28 P1.25/EXTIN0 (io), 29 P0.5/MISO0/MAT0.1 (io), 30 P0.6/MOSI0/CAP0.2 (io), 31 P0.7/SSEL0/PWM2/EINT2 (io), 32 P1.24/TRACECLK (io), 33 P0.8/TXD1/PWM4 (io), 34 P0.9/RXD1/PWM6/EINT3 (io), 35 P0.10/RTS1/CAP1.0 (io), 36 P1.23/PIPESTAT2 (io), 37 P0.11/CTS1/CAP1.1 (io), 38 P0.12/DSR1/MAT1.0 (io), 39 P0.13/DTR1/MAT1.1 (io), 40 P1.22/PIPESTAT1 (io), 41 P0.14/DCD1/EINT1 (io), 42 VSS (power), 43 V3 (power), 44 P1.21/PIPESTAT0 (io), 45 P0.15/RI1/EINT2 (io), 46 P0.16/EINT0/MAT0.2/CAP0.2 (io), 47 P0.17/CAP1.2/SCK1/MAT1.2 (io), 48 P1.20/TRACESYNC (io), 49 V18 (power), 50 VSS (power), 51 V3 (power), 52 P1.30/TMS (io), 53 P0.18/CAP1.3/MISO1/MAT1.3 (io), 54 P0.19/MAT1.2/MOSI1/CAP1.2 (io), 55 P0.20/MAT1.3/SSEL1/EINT3 (io), 56 P1.29/TCK (io), 57 ~{RESET} (in), 58 VSSA(PLL) (power), 59 VSSA (power), 60 P1.28/TDI (io), 61 XTAL2, 62 XTAL1 (in), 63 V18A (power), 64 P1.27/TDO (io)

## LPC2114FBD64
designator U?
ARM7 16/32-Bit Microcontroller, 128KB Flash, 16KB RAM, 64-Lead LQFP; Code_IEC: 136E10; Published: 31-Jul-2006; DatasheetVersion: rev.06, Jul-2007; PackageVersion: Feb-2003; PackageReference: SOT314-2; Publisher: Altium Limited; PackageDescription: 64-Pin Plastic Low Profile Quad Flat Pack; Code_JEDEC: MS-026; ComponentLink1Description: Manufacturer Link; ComponentLink1URL: http://www.nxp.com/; ComponentLink2Description: Datasheet; ComponentLink2URL: http://www.standardics.nxp.com/products/lpc2000/datasheet/lpc2114.lpc2124.pdf
footprint SOT314-2_N (Thin QFP, 64-Leads, Body 10x10mm, Pitch 0.5mm, IPC Medium Density)
footprint SOT314-2_L (Thin QFP, 64-Leads, Body 10x10mm, Pitch 0.5mm, IPC High Density)
footprint SOT314-2_M (Thin QFP, 64-Leads, Body 10x10mm, Pitch 0.5mm, IPC Low Density)
3D model LPC2114-QFP64 (64-Pin Plastic Low Profile Quad Flat Pack)
pins: 1 P0.21/PWM5/CAP1.3 (io), 2 P0.22/CAP0.0/MAT0.0 (io), 3 P0.23 (io), 4 P1.19/TRACEPKT3 (io), 5 P0.24 (io), 6 VSS (power), 7 VDDA(3V3) (power), 8 P1.18/TRACEPKT2 (io), 9 P0.25 (io), 10 NC, 11 P0.27/AIN0/CAP0.1/MAT0.1 (io), 12 P1.17/TRACEPKT1 (io), 13 P0.28/AIN1/CAP0.2/MAT0.2 (io), 14 P0.29/AIN2/CAP0.3/MAT0.3 (io), 15 P0.30/AIN3/EINT3/CAP0.0 (io), 16 P1.16/TRACEPKT0 (io), 17 VDD(1V8) (power), 18 VSS (power), 19 P0.0/TXD0/PWM1 (io), 20 P1.31/~{TRST} (io), 21 P0.1/RXD0/PWM3/EINT0 (io), 22 P0.2/SCL/CAP0.0 (io), 23 VDD(3V3) (power), 24 P1.26/RTCK (io), 25 VSS (power), 26 P0.3/SDA/MAT0.0/EINT1 (io), 27 P0.4/SCK0/CAP0.1 (io), 28 P1.25/EXTIN0 (io), 29 P0.5/MISO0/MAT0.1 (io), 30 P0.6/MOSI0/CAP0.2 (io), 31 P0.7/SSEL0/PWM2/EINT2 (io), 32 P1.24/TRACECLK (io), 33 P0.8/TXD1/PWM4 (io), 34 P0.9/RXD1/PWM6/EINT3 (io), 35 P0.10/RTS1/CAP1.0 (io), 36 P1.23/PIPESTAT2 (io), 37 P0.11/CTS1/CAP1.1 (io), 38 P0.12/DSR1/MAT1.0 (io), 39 P0.13/DTR1/MAT1.1 (io), 40 P1.22/PIPESTAT1 (io), 41 P0.14/DCD1/EINT1 (io), 42 VSS (power), 43 VDD(3V3) (power), 44 P1.21/PIPESTAT0 (io), 45 P0.15/RI1/EINT2 (io), 46 P0.16/EINT0/MAT0.2/CAP0.2 (io), 47 P0.17/CAP1.2/SCK1/MAT1.2 (io), 48 P1.20/TRACESYNC (io), 49 VDD(1V8) (power), 50 VSS (power), 51 VDD(3V3) (power), 52 P1.30/TMS (io), 53 P0.18/CAP1.3/MISO1/MAT1.3 (io), 54 P0.19/MAT1.2/MOSI1/CAP1.2 (io), 55 P0.20/MAT1.3/SSEL1/EINT3 (io), 56 P1.29/TCK (io), 57 ~{RESET} (in), 58 VSSA(PLL) (power), 59 VSSA (power), 60 P1.28/TDI (io), 61 XTAL2, 62 XTAL1 (in), 63 VDDA(1V8) (power), 64 P1.27/TDO (io)

## LPC2114FBD64-00
designator U?
ARM7 16/32-Bit Microcontroller, 128KB Flash, 16KB RAM, 64-Lead LQFP; Code_IEC: 136E10; Published: 31-Jul-2006; DatasheetVersion: rev.06, Jul-2007; PackageVersion: Feb-2003; PackageReference: SOT314-2; Publisher: Altium Limited; PackageDescription: 64-Pin Plastic Low Profile Quad Flat Pack; Code_JEDEC: MS-026; ComponentLink1Description: Manufacturer Link; ComponentLink1URL: http://www.nxp.com/; ComponentLink2Description: Datasheet; ComponentLink2URL: http://www.standardics.nxp.com/products/lpc2000/datasheet/lpc2114.lpc2124.pdf
footprint SOT314-2_N (Thin QFP, 64-Leads, Body 10x10mm, Pitch 0.5mm, IPC Medium Density)
footprint SOT314-2_L (Thin QFP, 64-Leads, Body 10x10mm, Pitch 0.5mm, IPC High Density)
footprint SOT314-2_M (Thin QFP, 64-Leads, Body 10x10mm, Pitch 0.5mm, IPC Low Density)
3D model LPC2114-QFP64 (64-Pin Plastic Low Profile Quad Flat Pack)
pins: 1 P0.21/PWM5/CAP1.3 (io), 2 P0.22/CAP0.0/MAT0.0 (io), 3 P0.23 (io), 4 P1.19/TRACEPKT3 (io), 5 P0.24 (io), 6 VSS (power), 7 VDDA(3V3) (power), 8 P1.18/TRACEPKT2 (io), 9 P0.25 (io), 10 NC, 11 P0.27/AIN0/CAP0.1/MAT0.1 (io), 12 P1.17/TRACEPKT1 (io), 13 P0.28/AIN1/CAP0.2/MAT0.2 (io), 14 P0.29/AIN2/CAP0.3/MAT0.3 (io), 15 P0.30/AIN3/EINT3/CAP0.0 (io), 16 P1.16/TRACEPKT0 (io), 17 VDD(1V8) (power), 18 VSS (power), 19 P0.0/TXD0/PWM1 (io), 20 P1.31/~{TRST} (io), 21 P0.1/RXD0/PWM3/EINT0 (io), 22 P0.2/SCL/CAP0.0 (io), 23 VDD(3V3) (power), 24 P1.26/RTCK (io), 25 VSS (power), 26 P0.3/SDA/MAT0.0/EINT1 (io), 27 P0.4/SCK0/CAP0.1 (io), 28 P1.25/EXTIN0 (io), 29 P0.5/MISO0/MAT0.1 (io), 30 P0.6/MOSI0/CAP0.2 (io), 31 P0.7/SSEL0/PWM2/EINT2 (io), 32 P1.24/TRACECLK (io), 33 P0.8/TXD1/PWM4 (io), 34 P0.9/RXD1/PWM6/EINT3 (io), 35 P0.10/RTS1/CAP1.0 (io), 36 P1.23/PIPESTAT2 (io), 37 P0.11/CTS1/CAP1.1 (io), 38 P0.12/DSR1/MAT1.0 (io), 39 P0.13/DTR1/MAT1.1 (io), 40 P1.22/PIPESTAT1 (io), 41 P0.14/DCD1/EINT1 (io), 42 VSS (power), 43 VDD(3V3) (power), 44 P1.21/PIPESTAT0 (io), 45 P0.15/RI1/EINT2 (io), 46 P0.16/EINT0/MAT0.2/CAP0.2 (io), 47 P0.17/CAP1.2/SCK1/MAT1.2 (io), 48 P1.20/TRACESYNC (io), 49 VDD(1V8) (power), 50 VSS (power), 51 VDD(3V3) (power), 52 P1.30/TMS (io), 53 P0.18/CAP1.3/MISO1/MAT1.3 (io), 54 P0.19/MAT1.2/MOSI1/CAP1.2 (io), 55 P0.20/MAT1.3/SSEL1/EINT3 (io), 56 P1.29/TCK (io), 57 ~{RESET} (in), 58 VSSA(PLL) (power), 59 VSSA (power), 60 P1.28/TDI (io), 61 XTAL2, 62 XTAL1 (in), 63 VDDA(1V8) (power), 64 P1.27/TDO (io)

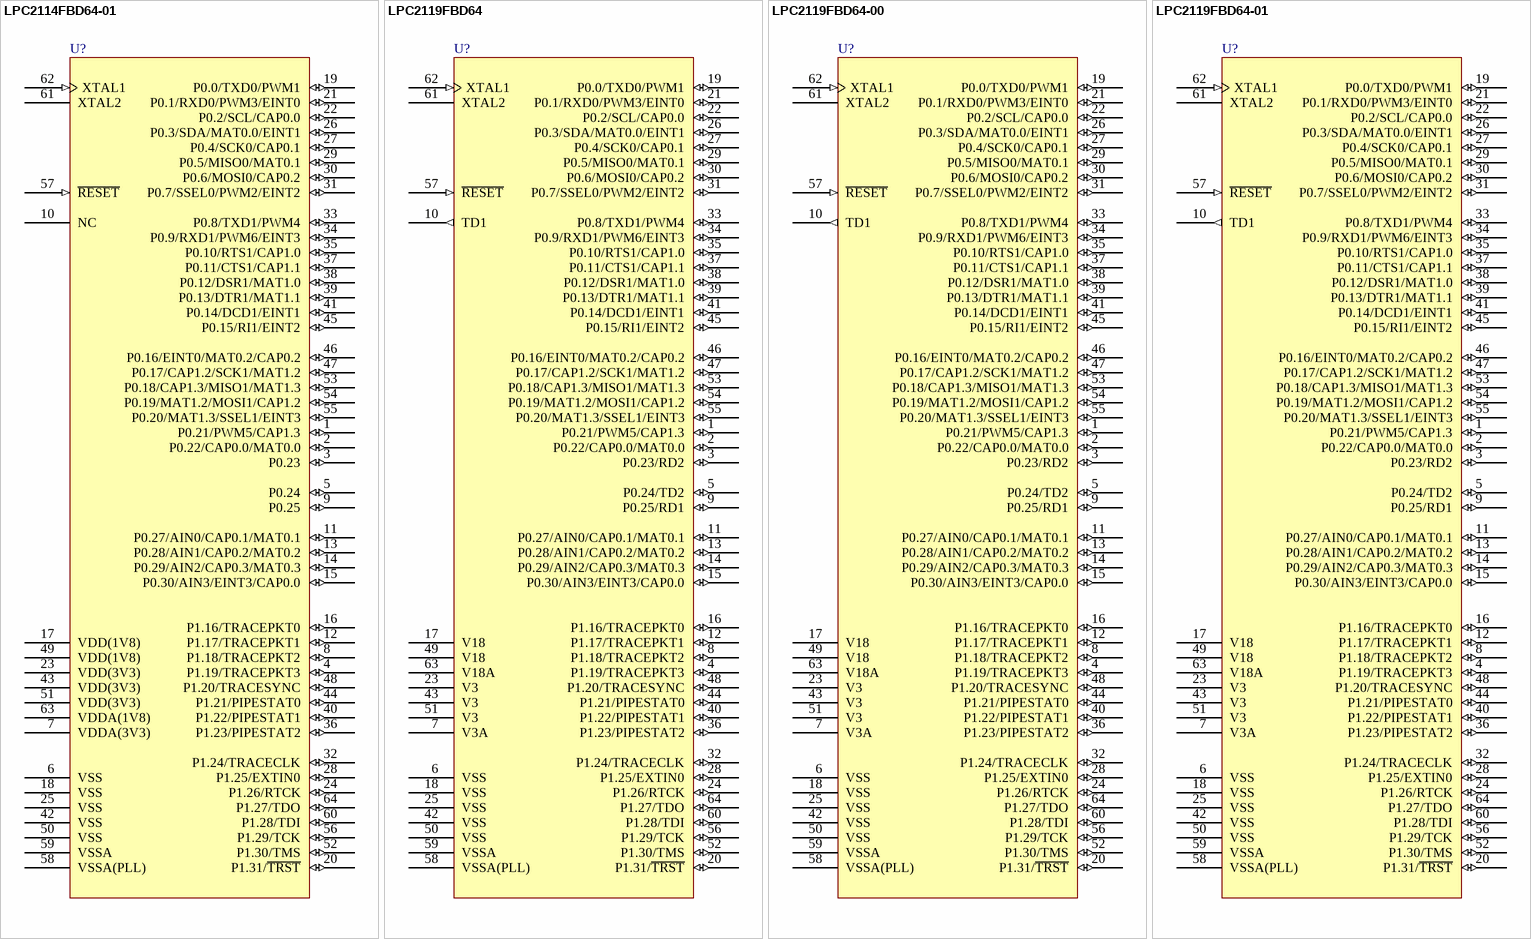
[diagram p3: symbols LPC2114FBD64-01 to LPC2119FBD64-01]

## LPC2114FBD64-01
designator U?
ARM7 16/32-Bit Microcontroller, 128KB Flash, 16KB RAM, Fast GPIO/SSP/Enhanced UART, ADC, Timer, 64-Lead LQFP; Code_IEC: 136E10; Published: 17-Aug-2007; DatasheetVersion: rev.06, Jul-2007; PackageVersion: Feb-2003; PackageReference: SOT314-2; Publisher: Altium Limited; PackageDescription: 64-Pin Plastic Low Profile Quad Flat Pack; Code_JEDEC: MS-026; ComponentLink1Description: Manufacturer Link; ComponentLink1URL: http://www.nxp.com/; ComponentLink2Description: Datasheet; ComponentLink2URL: http://www.standardics.nxp.com/products/lpc2000/datasheet/lpc2114.lpc2124.pdf
footprint SOT314-2_N (Thin QFP, 64-Leads, Body 10x10mm, Pitch 0.5mm, IPC Medium Density)
footprint SOT314-2_L (Thin QFP, 64-Leads, Body 10x10mm, Pitch 0.5mm, IPC High Density)
footprint SOT314-2_M (Thin QFP, 64-Leads, Body 10x10mm, Pitch 0.5mm, IPC Low Density)
3D model LPC2114-QFP64 (64-Pin Plastic Low Profile Quad Flat Pack)
pins: 1 P0.21/PWM5/CAP1.3 (io), 2 P0.22/CAP0.0/MAT0.0 (io), 3 P0.23 (io), 4 P1.19/TRACEPKT3 (io), 5 P0.24 (io), 6 VSS (power), 7 VDDA(3V3) (power), 8 P1.18/TRACEPKT2 (io), 9 P0.25 (io), 10 NC, 11 P0.27/AIN0/CAP0.1/MAT0.1 (io), 12 P1.17/TRACEPKT1 (io), 13 P0.28/AIN1/CAP0.2/MAT0.2 (io), 14 P0.29/AIN2/CAP0.3/MAT0.3 (io), 15 P0.30/AIN3/EINT3/CAP0.0 (io), 16 P1.16/TRACEPKT0 (io), 17 VDD(1V8) (power), 18 VSS (power), 19 P0.0/TXD0/PWM1 (io), 20 P1.31/~{TRST} (io), 21 P0.1/RXD0/PWM3/EINT0 (io), 22 P0.2/SCL/CAP0.0 (io), 23 VDD(3V3) (power), 24 P1.26/RTCK (io), 25 VSS (power), 26 P0.3/SDA/MAT0.0/EINT1 (io), 27 P0.4/SCK0/CAP0.1 (io), 28 P1.25/EXTIN0 (io), 29 P0.5/MISO0/MAT0.1 (io), 30 P0.6/MOSI0/CAP0.2 (io), 31 P0.7/SSEL0/PWM2/EINT2 (io), 32 P1.24/TRACECLK (io), 33 P0.8/TXD1/PWM4 (io), 34 P0.9/RXD1/PWM6/EINT3 (io), 35 P0.10/RTS1/CAP1.0 (io), 36 P1.23/PIPESTAT2 (io), 37 P0.11/CTS1/CAP1.1 (io), 38 P0.12/DSR1/MAT1.0 (io), 39 P0.13/DTR1/MAT1.1 (io), 40 P1.22/PIPESTAT1 (io), 41 P0.14/DCD1/EINT1 (io), 42 VSS (power), 43 VDD(3V3) (power), 44 P1.21/PIPESTAT0 (io), 45 P0.15/RI1/EINT2 (io), 46 P0.16/EINT0/MAT0.2/CAP0.2 (io), 47 P0.17/CAP1.2/SCK1/MAT1.2 (io), 48 P1.20/TRACESYNC (io), 49 VDD(1V8) (power), 50 VSS (power), 51 VDD(3V3) (power), 52 P1.30/TMS (io), 53 P0.18/CAP1.3/MISO1/MAT1.3 (io), 54 P0.19/MAT1.2/MOSI1/CAP1.2 (io), 55 P0.20/MAT1.3/SSEL1/EINT3 (io), 56 P1.29/TCK (io), 57 ~{RESET} (in), 58 VSSA(PLL) (power), 59 VSSA (power), 60 P1.28/TDI (io), 61 XTAL2, 62 XTAL1 (in), 63 VDDA(1V8) (power), 64 P1.27/TDO (io)

## LPC2119FBD64
designator U?
ARM7 16/32-Bit Microcontroller, 128KB Flash, 16KB RAM, 64-Lead LQFP; Code_IEC: 136E10; Published: 31-Jul-2006; DatasheetVersion: rev.06, Jul-2007; PackageVersion: Feb-2003; PackageReference: SOT314-2; Publisher: Altium Limited; PackageDescription: 64-Pin Plastic Low Profile Quad Flat Pack; Code_JEDEC: MS-026; ComponentLink1Description: Manufacturer Link; ComponentLink1URL: http://www.nxp.com/; ComponentLink2Description: Datasheet; ComponentLink2URL: http://www.standardics.nxp.com/products/lpc2000/datasheet/lpc2109.lpc2119.lpc2129.pdf
footprint SOT314-2_N (Thin QFP, 64-Leads, Body 10x10mm, Pitch 0.5mm, IPC Medium Density)
footprint SOT314-2_L (Thin QFP, 64-Leads, Body 10x10mm, Pitch 0.5mm, IPC High Density)
footprint SOT314-2_M (Thin QFP, 64-Leads, Body 10x10mm, Pitch 0.5mm, IPC Low Density)
3D model LPC2119-QFP64 (64-Pin Plastic Low Profile Quad Flat Pack)
pins: 1 P0.21/PWM5/CAP1.3 (io), 2 P0.22/CAP0.0/MAT0.0 (io), 3 P0.23/RD2 (io), 4 P1.19/TRACEPKT3 (io), 5 P0.24/TD2 (io), 6 VSS (power), 7 V3A (power), 8 P1.18/TRACEPKT2 (io), 9 P0.25/RD1 (io), 10 TD1 (out), 11 P0.27/AIN0/CAP0.1/MAT0.1 (io), 12 P1.17/TRACEPKT1 (io), 13 P0.28/AIN1/CAP0.2/MAT0.2 (io), 14 P0.29/AIN2/CAP0.3/MAT0.3 (io), 15 P0.30/AIN3/EINT3/CAP0.0 (io), 16 P1.16/TRACEPKT0 (io), 17 V18 (power), 18 VSS (power), 19 P0.0/TXD0/PWM1 (io), 20 P1.31/~{TRST} (io), 21 P0.1/RXD0/PWM3/EINT0 (io), 22 P0.2/SCL/CAP0.0 (io), 23 V3 (power), 24 P1.26/RTCK (io), 25 VSS (power), 26 P0.3/SDA/MAT0.0/EINT1 (io), 27 P0.4/SCK0/CAP0.1 (io), 28 P1.25/EXTIN0 (io), 29 P0.5/MISO0/MAT0.1 (io), 30 P0.6/MOSI0/CAP0.2 (io), 31 P0.7/SSEL0/PWM2/EINT2 (io), 32 P1.24/TRACECLK (io), 33 P0.8/TXD1/PWM4 (io), 34 P0.9/RXD1/PWM6/EINT3 (io), 35 P0.10/RTS1/CAP1.0 (io), 36 P1.23/PIPESTAT2 (io), 37 P0.11/CTS1/CAP1.1 (io), 38 P0.12/DSR1/MAT1.0 (io), 39 P0.13/DTR1/MAT1.1 (io), 40 P1.22/PIPESTAT1 (io), 41 P0.14/DCD1/EINT1 (io), 42 VSS (power), 43 V3 (power), 44 P1.21/PIPESTAT0 (io), 45 P0.15/RI1/EINT2 (io), 46 P0.16/EINT0/MAT0.2/CAP0.2 (io), 47 P0.17/CAP1.2/SCK1/MAT1.2 (io), 48 P1.20/TRACESYNC (io), 49 V18 (power), 50 VSS (power), 51 V3 (power), 52 P1.30/TMS (io), 53 P0.18/CAP1.3/MISO1/MAT1.3 (io), 54 P0.19/MAT1.2/MOSI1/CAP1.2 (io), 55 P0.20/MAT1.3/SSEL1/EINT3 (io), 56 P1.29/TCK (io), 57 ~{RESET} (in), 58 VSSA(PLL) (power), 59 VSSA (power), 60 P1.28/TDI (io), 61 XTAL2, 62 XTAL1 (in), 63 V18A (power), 64 P1.27/TDO (io)

## LPC2119FBD64-00
designator U?
ARM7 16/32-Bit Microcontroller, 128KB Flash, 16KB RAM, 64-Lead LQFP; Code_IEC: 136E10; Published: 17-Aug-2007; DatasheetVersion: rev.06, Jul-2007; PackageVersion: Feb-2003; PackageReference: SOT314-2; Publisher: Altium Limited; PackageDescription: 64-Pin Plastic Low Profile Quad Flat Pack; Code_JEDEC: MS-026; ComponentLink1Description: Manufacturer Link; ComponentLink1URL: http://www.nxp.com/; ComponentLink2Description: Datasheet; ComponentLink2URL: http://www.standardics.nxp.com/products/lpc2000/datasheet/lpc2109.lpc2119.lpc2129.pdf
footprint SOT314-2_N (Thin QFP, 64-Leads, Body 10x10mm, Pitch 0.5mm, IPC Medium Density)
footprint SOT314-2_L (Thin QFP, 64-Leads, Body 10x10mm, Pitch 0.5mm, IPC High Density)
footprint SOT314-2_M (Thin QFP, 64-Leads, Body 10x10mm, Pitch 0.5mm, IPC Low Density)
3D model LPC2119-QFP64 (64-Pin Plastic Low Profile Quad Flat Pack)
pins: 1 P0.21/PWM5/CAP1.3 (io), 2 P0.22/CAP0.0/MAT0.0 (io), 3 P0.23/RD2 (io), 4 P1.19/TRACEPKT3 (io), 5 P0.24/TD2 (io), 6 VSS (power), 7 V3A (power), 8 P1.18/TRACEPKT2 (io), 9 P0.25/RD1 (io), 10 TD1 (out), 11 P0.27/AIN0/CAP0.1/MAT0.1 (io), 12 P1.17/TRACEPKT1 (io), 13 P0.28/AIN1/CAP0.2/MAT0.2 (io), 14 P0.29/AIN2/CAP0.3/MAT0.3 (io), 15 P0.30/AIN3/EINT3/CAP0.0 (io), 16 P1.16/TRACEPKT0 (io), 17 V18 (power), 18 VSS (power), 19 P0.0/TXD0/PWM1 (io), 20 P1.31/~{TRST} (io), 21 P0.1/RXD0/PWM3/EINT0 (io), 22 P0.2/SCL/CAP0.0 (io), 23 V3 (power), 24 P1.26/RTCK (io), 25 VSS (power), 26 P0.3/SDA/MAT0.0/EINT1 (io), 27 P0.4/SCK0/CAP0.1 (io), 28 P1.25/EXTIN0 (io), 29 P0.5/MISO0/MAT0.1 (io), 30 P0.6/MOSI0/CAP0.2 (io), 31 P0.7/SSEL0/PWM2/EINT2 (io), 32 P1.24/TRACECLK (io), 33 P0.8/TXD1/PWM4 (io), 34 P0.9/RXD1/PWM6/EINT3 (io), 35 P0.10/RTS1/CAP1.0 (io), 36 P1.23/PIPESTAT2 (io), 37 P0.11/CTS1/CAP1.1 (io), 38 P0.12/DSR1/MAT1.0 (io), 39 P0.13/DTR1/MAT1.1 (io), 40 P1.22/PIPESTAT1 (io), 41 P0.14/DCD1/EINT1 (io), 42 VSS (power), 43 V3 (power), 44 P1.21/PIPESTAT0 (io), 45 P0.15/RI1/EINT2 (io), 46 P0.16/EINT0/MAT0.2/CAP0.2 (io), 47 P0.17/CAP1.2/SCK1/MAT1.2 (io), 48 P1.20/TRACESYNC (io), 49 V18 (power), 50 VSS (power), 51 V3 (power), 52 P1.30/TMS (io), 53 P0.18/CAP1.3/MISO1/MAT1.3 (io), 54 P0.19/MAT1.2/MOSI1/CAP1.2 (io), 55 P0.20/MAT1.3/SSEL1/EINT3 (io), 56 P1.29/TCK (io), 57 ~{RESET} (in), 58 VSSA(PLL) (power), 59 VSSA (power), 60 P1.28/TDI (io), 61 XTAL2, 62 XTAL1 (in), 63 V18A (power), 64 P1.27/TDO (io)

## LPC2119FBD64-01
designator U?
ARM7 16/32-Bit Microcontroller, 128KB Flash, 16KB RAM, Fast GPIO/SSP/Enhanced UART, ADC, Timer, 64-Lead LQFP; Code_IEC: 136E10; Published: 17-Aug-2007; DatasheetVersion: rev.06, Jul-2007; PackageVersion: Feb-2003; PackageReference: SOT314-2; Publisher: Altium Limited; PackageDescription: 64-Pin Plastic Low Profile Quad Flat Pack; Code_JEDEC: MS-026; ComponentLink1Description: Manufacturer Link; ComponentLink1URL: http://www.nxp.com/; ComponentLink2Description: Datasheet; ComponentLink2URL: http://www.standardics.nxp.com/products/lpc2000/datasheet/lpc2109.lpc2119.lpc2129.pdf
footprint SOT314-2_N (Thin QFP, 64-Leads, Body 10x10mm, Pitch 0.5mm, IPC Medium Density)
footprint SOT314-2_L (Thin QFP, 64-Leads, Body 10x10mm, Pitch 0.5mm, IPC High Density)
footprint SOT314-2_M (Thin QFP, 64-Leads, Body 10x10mm, Pitch 0.5mm, IPC Low Density)
3D model LPC2119-QFP64 (64-Pin Plastic Low Profile Quad Flat Pack)
pins: 1 P0.21/PWM5/CAP1.3 (io), 2 P0.22/CAP0.0/MAT0.0 (io), 3 P0.23/RD2 (io), 4 P1.19/TRACEPKT3 (io), 5 P0.24/TD2 (io), 6 VSS (power), 7 V3A (power), 8 P1.18/TRACEPKT2 (io), 9 P0.25/RD1 (io), 10 TD1 (out), 11 P0.27/AIN0/CAP0.1/MAT0.1 (io), 12 P1.17/TRACEPKT1 (io), 13 P0.28/AIN1/CAP0.2/MAT0.2 (io), 14 P0.29/AIN2/CAP0.3/MAT0.3 (io), 15 P0.30/AIN3/EINT3/CAP0.0 (io), 16 P1.16/TRACEPKT0 (io), 17 V18 (power), 18 VSS (power), 19 P0.0/TXD0/PWM1 (io), 20 P1.31/~{TRST} (io), 21 P0.1/RXD0/PWM3/EINT0 (io), 22 P0.2/SCL/CAP0.0 (io), 23 V3 (power), 24 P1.26/RTCK (io), 25 VSS (power), 26 P0.3/SDA/MAT0.0/EINT1 (io), 27 P0.4/SCK0/CAP0.1 (io), 28 P1.25/EXTIN0 (io), 29 P0.5/MISO0/MAT0.1 (io), 30 P0.6/MOSI0/CAP0.2 (io), 31 P0.7/SSEL0/PWM2/EINT2 (io), 32 P1.24/TRACECLK (io), 33 P0.8/TXD1/PWM4 (io), 34 P0.9/RXD1/PWM6/EINT3 (io), 35 P0.10/RTS1/CAP1.0 (io), 36 P1.23/PIPESTAT2 (io), 37 P0.11/CTS1/CAP1.1 (io), 38 P0.12/DSR1/MAT1.0 (io), 39 P0.13/DTR1/MAT1.1 (io), 40 P1.22/PIPESTAT1 (io), 41 P0.14/DCD1/EINT1 (io), 42 VSS (power), 43 V3 (power), 44 P1.21/PIPESTAT0 (io), 45 P0.15/RI1/EINT2 (io), 46 P0.16/EINT0/MAT0.2/CAP0.2 (io), 47 P0.17/CAP1.2/SCK1/MAT1.2 (io), 48 P1.20/TRACESYNC (io), 49 V18 (power), 50 VSS (power), 51 V3 (power), 52 P1.30/TMS (io), 53 P0.18/CAP1.3/MISO1/MAT1.3 (io), 54 P0.19/MAT1.2/MOSI1/CAP1.2 (io), 55 P0.20/MAT1.3/SSEL1/EINT3 (io), 56 P1.29/TCK (io), 57 ~{RESET} (in), 58 VSSA(PLL) (power), 59 VSSA (power), 60 P1.28/TDI (io), 61 XTAL2, 62 XTAL1 (in), 63 V18A (power), 64 P1.27/TDO (io)

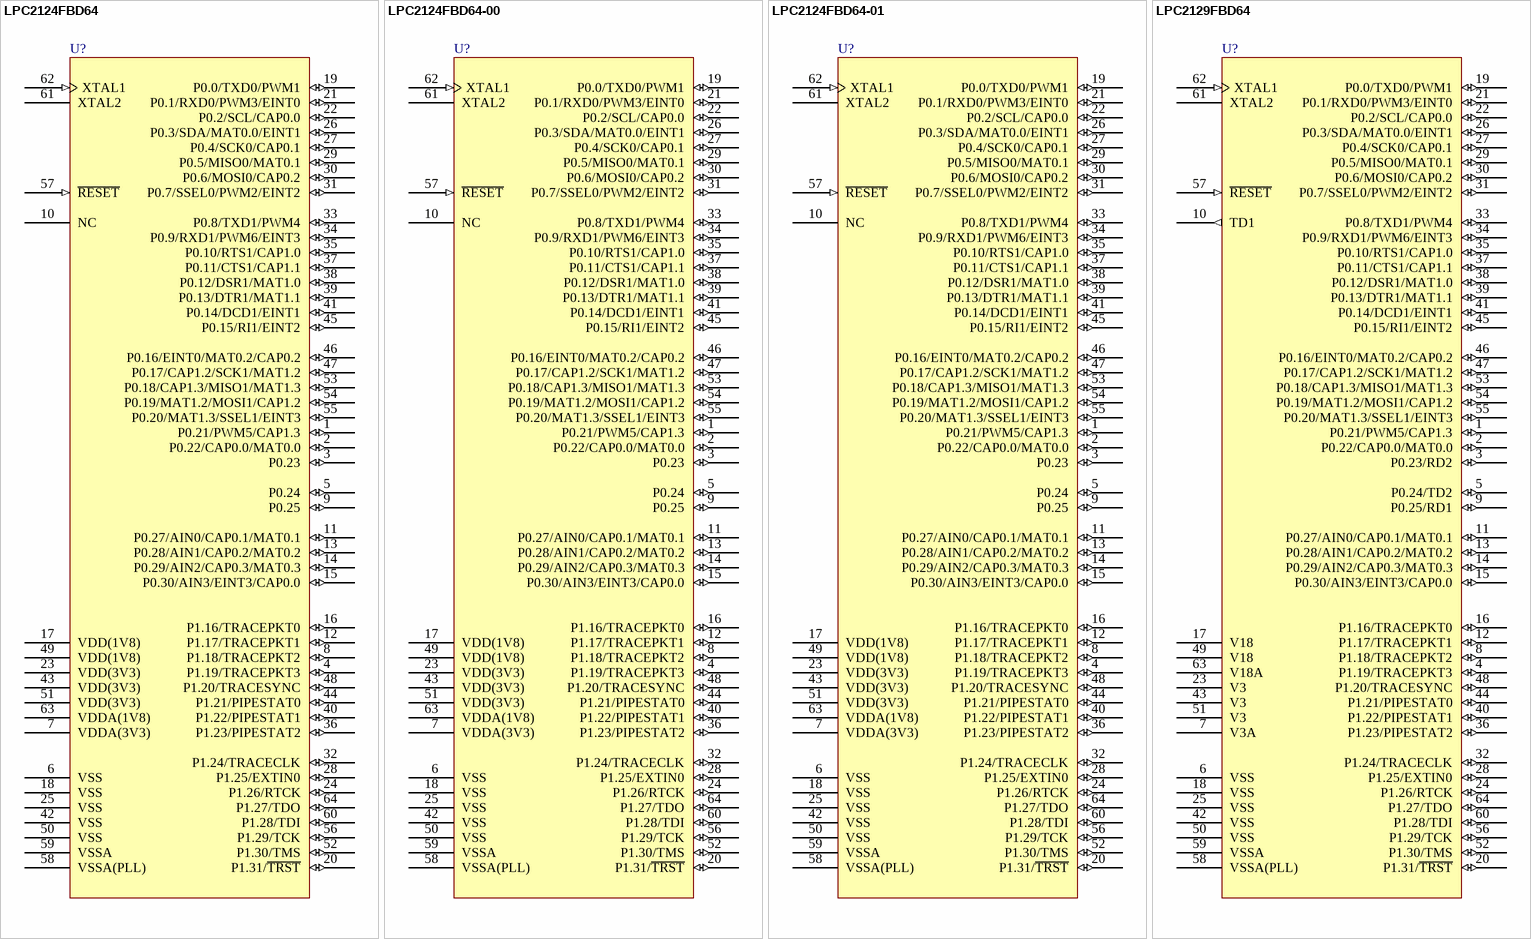
[diagram p4: symbols LPC2124FBD64 to LPC2129FBD64]

## LPC2124FBD64
designator U?
ARM7 16/32-Bit Microcontroller, 256KB Flash, 16KB RAM, 64-Lead LQFP; Code_IEC: 136E10; Published: 31-Jul-2006; DatasheetVersion: rev.06, Jul-2007; PackageVersion: Feb-2003; PackageReference: SOT314-2; Publisher: Altium Limited; PackageDescription: 64-Pin Plastic Low Profile Quad Flat Pack; Code_JEDEC: MS-026; ComponentLink1Description: Manufacturer Link; ComponentLink1URL: http://www.nxp.com/; ComponentLink2Description: Datasheet; ComponentLink2URL: http://www.standardics.nxp.com/products/lpc2000/datasheet/lpc2114.lpc2124.pdf
footprint SOT314-2_N (Thin QFP, 64-Leads, Body 10x10mm, Pitch 0.5mm, IPC Medium Density)
footprint SOT314-2_L (Thin QFP, 64-Leads, Body 10x10mm, Pitch 0.5mm, IPC High Density)
footprint SOT314-2_M (Thin QFP, 64-Leads, Body 10x10mm, Pitch 0.5mm, IPC Low Density)
3D model LPC2124-QFP64 (64-Pin Plastic Low Profile Quad Flat Pack)
pins: 1 P0.21/PWM5/CAP1.3 (io), 2 P0.22/CAP0.0/MAT0.0 (io), 3 P0.23 (io), 4 P1.19/TRACEPKT3 (io), 5 P0.24 (io), 6 VSS (power), 7 VDDA(3V3) (power), 8 P1.18/TRACEPKT2 (io), 9 P0.25 (io), 10 NC, 11 P0.27/AIN0/CAP0.1/MAT0.1 (io), 12 P1.17/TRACEPKT1 (io), 13 P0.28/AIN1/CAP0.2/MAT0.2 (io), 14 P0.29/AIN2/CAP0.3/MAT0.3 (io), 15 P0.30/AIN3/EINT3/CAP0.0 (io), 16 P1.16/TRACEPKT0 (io), 17 VDD(1V8) (power), 18 VSS (power), 19 P0.0/TXD0/PWM1 (io), 20 P1.31/~{TRST} (io), 21 P0.1/RXD0/PWM3/EINT0 (io), 22 P0.2/SCL/CAP0.0 (io), 23 VDD(3V3) (power), 24 P1.26/RTCK (io), 25 VSS (power), 26 P0.3/SDA/MAT0.0/EINT1 (io), 27 P0.4/SCK0/CAP0.1 (io), 28 P1.25/EXTIN0 (io), 29 P0.5/MISO0/MAT0.1 (io), 30 P0.6/MOSI0/CAP0.2 (io), 31 P0.7/SSEL0/PWM2/EINT2 (io), 32 P1.24/TRACECLK (io), 33 P0.8/TXD1/PWM4 (io), 34 P0.9/RXD1/PWM6/EINT3 (io), 35 P0.10/RTS1/CAP1.0 (io), 36 P1.23/PIPESTAT2 (io), 37 P0.11/CTS1/CAP1.1 (io), 38 P0.12/DSR1/MAT1.0 (io), 39 P0.13/DTR1/MAT1.1 (io), 40 P1.22/PIPESTAT1 (io), 41 P0.14/DCD1/EINT1 (io), 42 VSS (power), 43 VDD(3V3) (power), 44 P1.21/PIPESTAT0 (io), 45 P0.15/RI1/EINT2 (io), 46 P0.16/EINT0/MAT0.2/CAP0.2 (io), 47 P0.17/CAP1.2/SCK1/MAT1.2 (io), 48 P1.20/TRACESYNC (io), 49 VDD(1V8) (power), 50 VSS (power), 51 VDD(3V3) (power), 52 P1.30/TMS (io), 53 P0.18/CAP1.3/MISO1/MAT1.3 (io), 54 P0.19/MAT1.2/MOSI1/CAP1.2 (io), 55 P0.20/MAT1.3/SSEL1/EINT3 (io), 56 P1.29/TCK (io), 57 ~{RESET} (in), 58 VSSA(PLL) (power), 59 VSSA (power), 60 P1.28/TDI (io), 61 XTAL2, 62 XTAL1 (in), 63 VDDA(1V8) (power), 64 P1.27/TDO (io)